# Altium integrated library Atmel Industry Compatible CPLD.IntLib: 265 symbols (part 7 of 12)
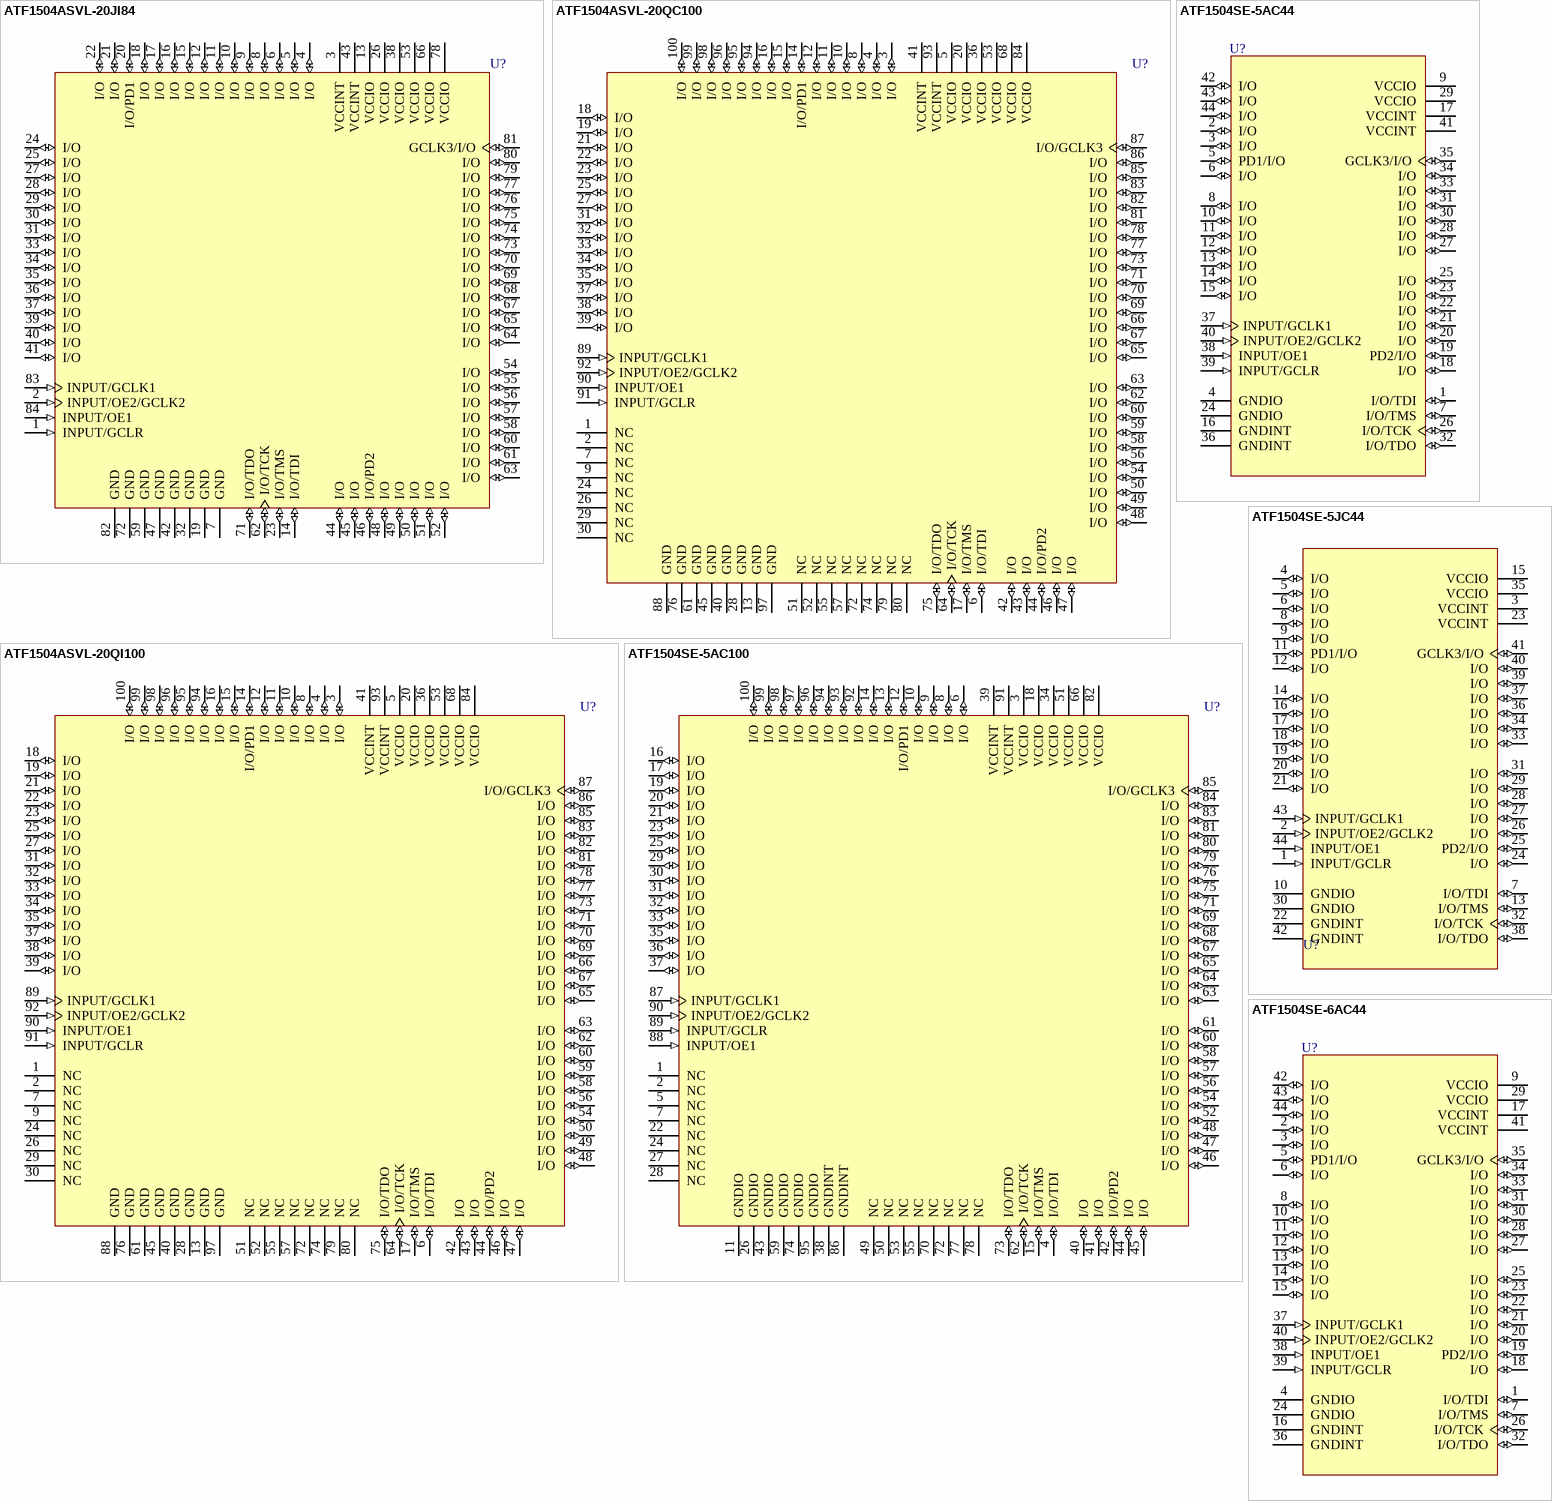
[diagram p52: symbols ATF1504ASVL-20JI84 to ATF1504SE-6AC44]

## ATF1504SE-5JC44
designator U?
ATF1504SE 5.0V CPLD, 64 Macrocells, 44-lead PLCC, Speed Grade 5.0, Commercial Grade; Published: 19-Mar-2004; LatestRevisionDate: 13-Apr-2006; LatestRevisionNote: IPC-7351 Footprint Added.; DatasheetVersion: Rev. 2401D-PLD-09/02; PackageVersion: rev.B, Oct-2001; PackageReference: 44J; Publisher: Altium Limited; PackageDescription: 44-Pin Leaded Chip Carrier 1.27 mm Pitch; Code_JEDEC: MS-018-AC; Code_IPC: PLCC-44; ComponentLink1Description: Manufacturer Link; ComponentLink1URL: http://www.atmel.com/products/pld/default.asp
footprint 44J_N (Leaded Chip Carrier, 44-Leads, Body 16.6x16.6mm, Pitch 1.27mm, IPC Medium Density)
footprint 44J_L (Leaded Chip Carrier, 44-Leads, Body 16.6x16.6mm, Pitch 1.27mm, IPC High Density)
footprint 44J_M (Leaded Chip Carrier, 44-Leads, Body 16.6x16.6mm, Pitch 1.27mm, IPC Low Density)
3D model ATF1504SE-44J (44-Pin Leaded Chip Carrier 1.27 mm Pitch)
pins: 1 INPUT/GCLR (in), 2 INPUT/OE2/GCLK2 (in), 3 VCCINT (power), 4 I/O (io), 5 I/O (io), 6 I/O (io), 7 I/O/TDI (io), 8 I/O (io), 9 I/O (io), 10 GNDIO (power), 11 PD1/I/O (io), 12 I/O (io), 13 I/O/TMS (io), 14 I/O (io), 15 VCCIO (power), 16 I/O (io), 17 I/O (io), 18 I/O (io), 19 I/O (io), 20 I/O (io), 21 I/O (io), 22 GNDINT (power), 23 VCCINT (power), 24 I/O (io), 25 PD2/I/O (io), 26 I/O (io), 27 I/O (io), 28 I/O (io), 29 I/O (io), 30 GNDIO (power), 31 I/O (io), 32 I/O/TCK (io), 33 I/O (io), 34 I/O (io), 35 VCCIO (power), 36 I/O (io), 37 I/O (io), 38 I/O/TDO (io), 39 I/O (io), 40 I/O (io), 41 GCLK3/I/O (io), 42 GNDINT (power), 43 INPUT/GCLK1 (in), 44 INPUT/OE1 (in)

## ATF1504SE-6AC44
designator U?
ATF1504SE 5.0V CPLD, 64 Macrocells, 44-lead TQFP, Speed Grade 6.0, Commercial Grade; Published: 19-Mar-2004; LatestRevisionDate: 13-Apr-2006; LatestRevisionNote: IPC-7351 Footprint Added.; DatasheetVersion: Rev. 2401D-PLD-09/02; PackageVersion: rev.B, Oct-2001; PackageReference: 44A; Publisher: Altium Limited; PackageDescription: 44-Pin Thin Quad Flat Pack 0.8 mm Pitch; ComponentLink1Description: Manufacturer Link; ComponentLink1URL: http://www.atmel.com/products/pld/default.asp
footprint 44A_N (Thin QFP, 44-Leads, Body 10x10mm, Pitch 0.8mm, IPC Medium Density)
footprint 44A_L (Thin QFP, 44-Leads, Body 10x10mm, Pitch 0.8mm, IPC High Density)
footprint 44A_M (Thin QFP, 44-Leads, Body 10x10mm, Pitch 0.8mm, IPC Low Density)
3D model ATF1504SE-44A (44-Pin Thin Quad Flat Pack 0.8 mm Pitch)
pins: 1 I/O/TDI (io), 2 I/O (io), 3 I/O (io), 4 GNDIO (power), 5 PD1/I/O (io), 6 I/O (io), 7 I/O/TMS (io), 8 I/O (io), 9 VCCIO (power), 10 I/O (io), 11 I/O (io), 12 I/O (io), 13 I/O (io), 14 I/O (io), 15 I/O (io), 16 GNDINT (power), 17 VCCINT (power), 18 I/O (io), 19 PD2/I/O (io), 20 I/O (io), 21 I/O (io), 22 I/O (io), 23 I/O (io), 24 GNDIO (power), 25 I/O (io), 26 I/O/TCK (io), 27 I/O (io), 28 I/O (io), 29 VCCIO (power), 30 I/O (io), 31 I/O (io), 32 I/O/TDO (io), 33 I/O (io), 34 I/O (io), 35 GCLK3/I/O (io), 36 GNDINT (power), 37 INPUT/GCLK1 (in), 38 INPUT/OE1 (in), 39 INPUT/GCLR (in), 40 INPUT/OE2/GCLK2 (in), 41 VCCINT (power), 42 I/O (io), 43 I/O (io), 44 I/O (io)

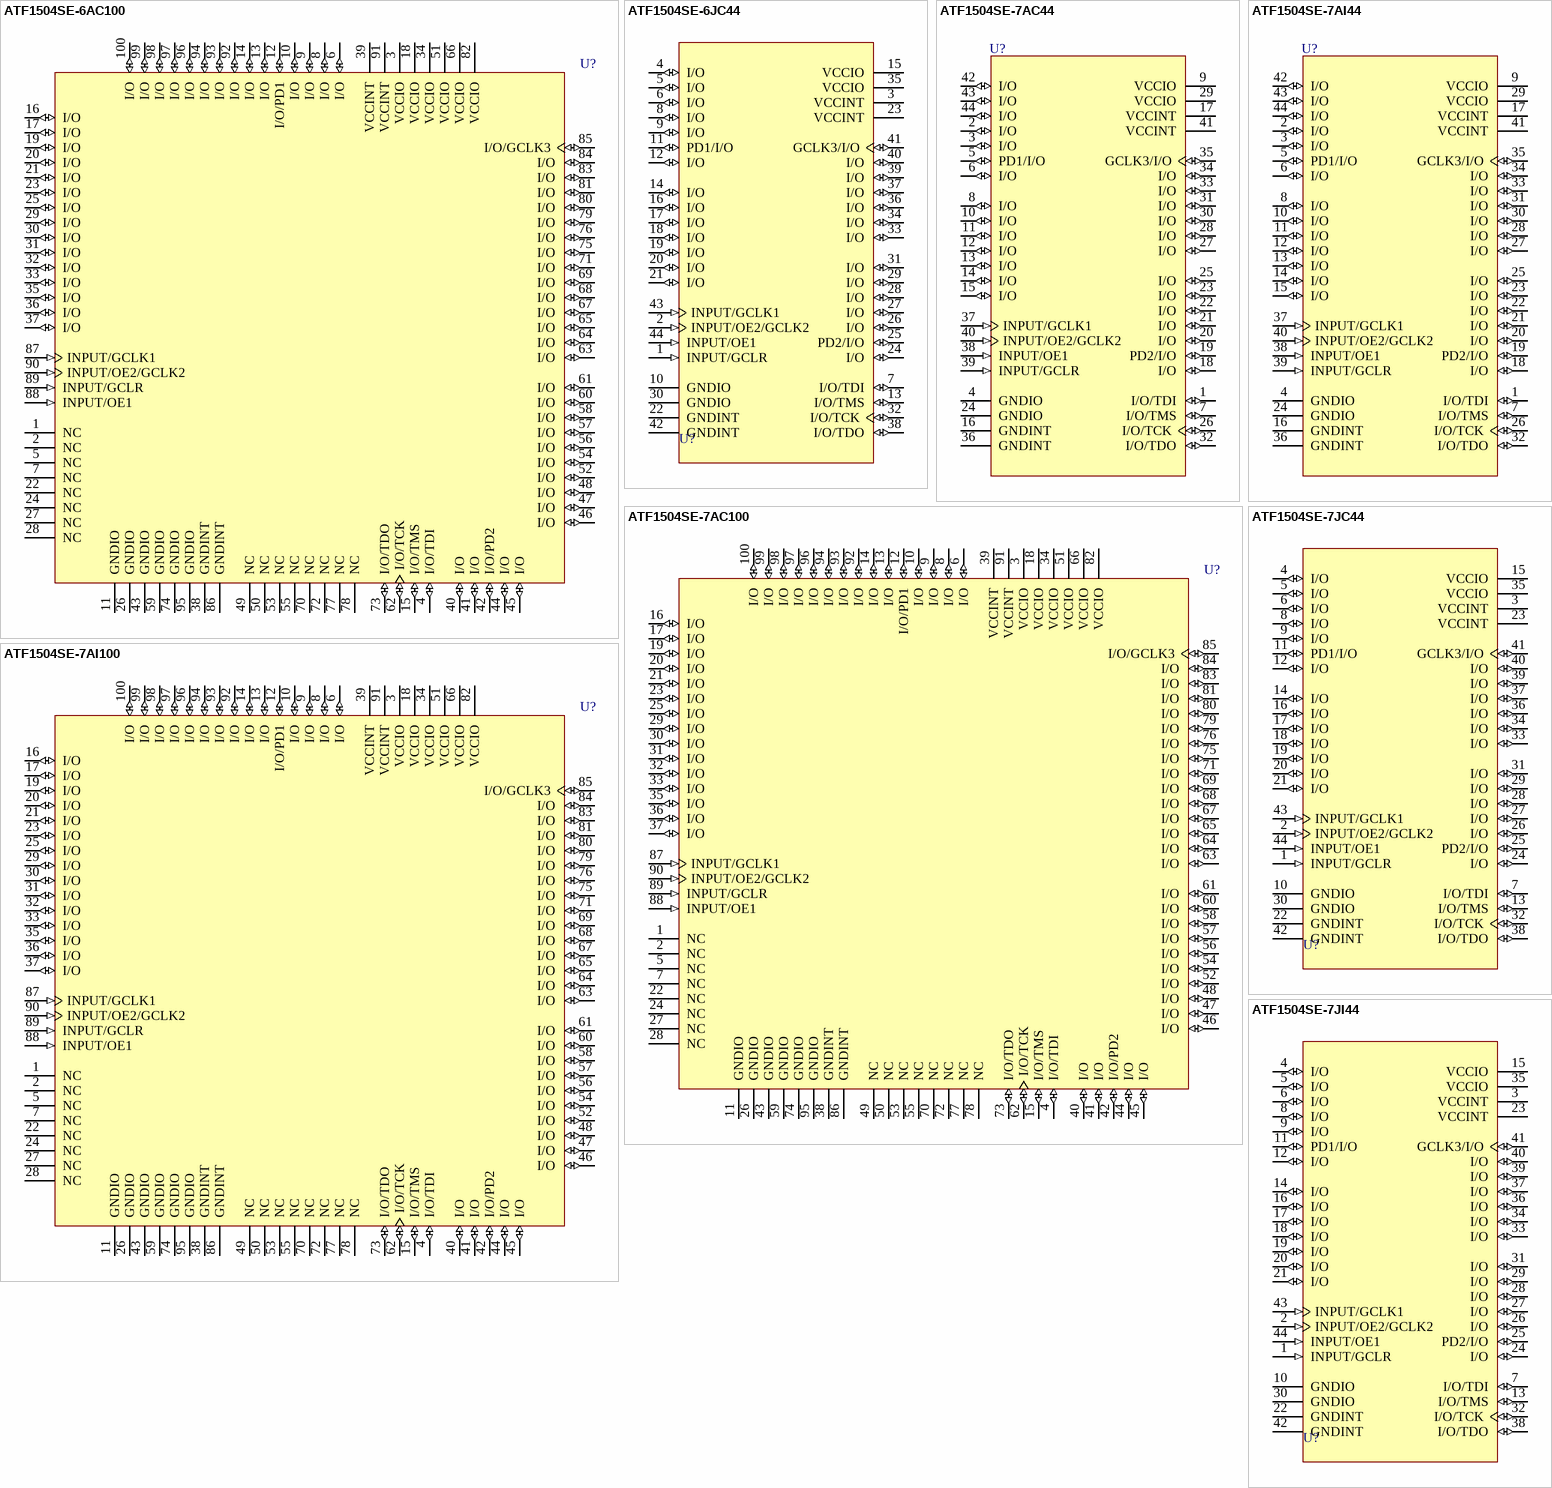
[diagram p19: symbols ATF1504SE-6AC100 to ATF1504SE-7JI44]

## ATF1504SE-6AC100
designator U?
ATF1504SE 5.0V CPLD, 64 Macrocells, 100-lead TQFP, Speed Grade 6.0, Commercial Grade; Published: 19-Mar-2004; LatestRevisionDate: 13-Apr-2006; LatestRevisionNote: IPC-7351 Footprint Added.; DatasheetVersion: Rev. 2401D-PLD-09/02; PackageVersion: rev.A, Nov-2001; PackageReference: 100T1; Publisher: Altium Limited; PackageDescription: 100-Pin Thin Quad Flat Pack 0.5 mm Pitch; Code_JEDEC: MS-026-AED; ComponentLink1Description: Manufacturer Link; ComponentLink1URL: http://www.atmel.com/products/pld/default.asp
footprint 100T1_N (Thin QFP, 100-Leads, Body 14x14mm, Pitch 0.5mm, IPC Medium Density)
footprint 100T1_L (Thin QFP, 100-Leads, Body 14x14mm, Pitch 0.5mm, IPC High Density)
footprint 100T1_M (Thin QFP, 100-Leads, Body 14x14mm, Pitch 0.5mm, IPC Low Density)
3D model ATF1504SE-100T1 (100-Pin Thin Quad Flat Pack 0.5 mm Pitch)
pins: 1 NC, 2 NC, 3 VCCIO (power), 4 I/O/TDI (io), 5 NC, 6 I/O (io), 7 NC, 8 I/O (io), 9 I/O (io), 10 I/O (io), 11 GNDIO (power), 12 I/O/PD1 (io), 13 I/O (io), 14 I/O (io), 15 I/O/TMS (io), 16 I/O (io), 17 I/O (io), 18 VCCIO (power), 19 I/O (io), 20 I/O (io), 21 I/O (io), 22 NC, 23 I/O (io), 24 NC, 25 I/O (io), 26 GNDIO (power), 27 NC, 28 NC, 29 I/O (io), 30 I/O (io), 31 I/O (io), 32 I/O (io), 33 I/O (io), 34 VCCIO (power), 35 I/O (io), 36 I/O (io), 37 I/O (io), 38 GNDINT (power), 39 VCCINT (power), 40 I/O (io), 41 I/O (io), 42 I/O/PD2 (io), 43 GNDIO (power), 44 I/O (io), 45 I/O (io), 46 I/O (io), 47 I/O (io), 48 I/O (io), 49 NC, 50 NC, 51 VCCIO (power), 52 I/O (io), 53 NC, 54 I/O (io), 55 NC, 56 I/O (io), 57 I/O (io), 58 I/O (io), 59 GNDIO (power), 60 I/O (io), 61 I/O (io), 62 I/O/TCK (io), 63 I/O (io), 64 I/O (io), 65 I/O (io), 66 VCCIO (power), 67 I/O (io), 68 I/O (io), 69 I/O (io), 70 NC, 71 I/O (io), 72 NC, 73 I/O/TDO (io), 74 GNDIO (power), 75 I/O (io), 76 I/O (io), 77 NC, 78 NC, 79 I/O (io), 80 I/O (io), 81 I/O (io), 82 VCCIO (power), 83 I/O (io), 84 I/O (io), 85 I/O/GCLK3 (io), 86 GNDINT (power), 87 INPUT/GCLK1 (in), 88 INPUT/OE1 (in), 89 INPUT/GCLR (in), 90 INPUT/OE2/GCLK2 (in), 91 VCCINT (power), 92 I/O (io), 93 I/O (io), 94 I/O (io), 95 GNDIO (power), 96 I/O (io), 97 I/O (io), 98 I/O (io), 99 I/O (io), 100 I/O (io)

## ATF1504SE-6JC44
designator U?
ATF1504SE 5.0V CPLD, 64 Macrocells, 44-lead PLCC, Speed Grade 6.0, Commercial Grade; Published: 19-Mar-2004; LatestRevisionDate: 13-Apr-2006; LatestRevisionNote: IPC-7351 Footprint Added.; DatasheetVersion: Rev. 2401D-PLD-09/02; PackageVersion: rev.B, Oct-2001; PackageReference: 44J; Publisher: Altium Limited; PackageDescription: 44-Pin Leaded Chip Carrier 1.27 mm Pitch; Code_JEDEC: MS-018-AC; Code_IPC: PLCC-44; ComponentLink1Description: Manufacturer Link; ComponentLink1URL: http://www.atmel.com/products/pld/default.asp
footprint 44J_N (Leaded Chip Carrier, 44-Leads, Body 16.6x16.6mm, Pitch 1.27mm, IPC Medium Density)
footprint 44J_L (Leaded Chip Carrier, 44-Leads, Body 16.6x16.6mm, Pitch 1.27mm, IPC High Density)
footprint 44J_M (Leaded Chip Carrier, 44-Leads, Body 16.6x16.6mm, Pitch 1.27mm, IPC Low Density)
3D model ATF1504SE-44J (44-Pin Leaded Chip Carrier 1.27 mm Pitch)
pins: 1 INPUT/GCLR (in), 2 INPUT/OE2/GCLK2 (in), 3 VCCINT (power), 4 I/O (io), 5 I/O (io), 6 I/O (io), 7 I/O/TDI (io), 8 I/O (io), 9 I/O (io), 10 GNDIO (power), 11 PD1/I/O (io), 12 I/O (io), 13 I/O/TMS (io), 14 I/O (io), 15 VCCIO (power), 16 I/O (io), 17 I/O (io), 18 I/O (io), 19 I/O (io), 20 I/O (io), 21 I/O (io), 22 GNDINT (power), 23 VCCINT (power), 24 I/O (io), 25 PD2/I/O (io), 26 I/O (io), 27 I/O (io), 28 I/O (io), 29 I/O (io), 30 GNDIO (power), 31 I/O (io), 32 I/O/TCK (io), 33 I/O (io), 34 I/O (io), 35 VCCIO (power), 36 I/O (io), 37 I/O (io), 38 I/O/TDO (io), 39 I/O (io), 40 I/O (io), 41 GCLK3/I/O (io), 42 GNDINT (power), 43 INPUT/GCLK1 (in), 44 INPUT/OE1 (in)

## ATF1504SE-7AC44
designator U?
ATF1504SE 5.0V CPLD, 64 Macrocells, 44-lead TQFP, Speed Grade 7.5, Commercial Grade; Published: 19-Mar-2004; LatestRevisionDate: 13-Apr-2006; LatestRevisionNote: IPC-7351 Footprint Added.; DatasheetVersion: Rev. 2401D-PLD-09/02; PackageVersion: rev.B, Oct-2001; PackageReference: 44A; Publisher: Altium Limited; PackageDescription: 44-Pin Thin Quad Flat Pack 0.8 mm Pitch; ComponentLink1Description: Manufacturer Link; ComponentLink1URL: http://www.atmel.com/products/pld/default.asp
footprint 44A_N (Thin QFP, 44-Leads, Body 10x10mm, Pitch 0.8mm, IPC Medium Density)
footprint 44A_L (Thin QFP, 44-Leads, Body 10x10mm, Pitch 0.8mm, IPC High Density)
footprint 44A_M (Thin QFP, 44-Leads, Body 10x10mm, Pitch 0.8mm, IPC Low Density)
3D model ATF1504SE-44A (44-Pin Thin Quad Flat Pack 0.8 mm Pitch)
pins: 1 I/O/TDI (io), 2 I/O (io), 3 I/O (io), 4 GNDIO (power), 5 PD1/I/O (io), 6 I/O (io), 7 I/O/TMS (io), 8 I/O (io), 9 VCCIO (power), 10 I/O (io), 11 I/O (io), 12 I/O (io), 13 I/O (io), 14 I/O (io), 15 I/O (io), 16 GNDINT (power), 17 VCCINT (power), 18 I/O (io), 19 PD2/I/O (io), 20 I/O (io), 21 I/O (io), 22 I/O (io), 23 I/O (io), 24 GNDIO (power), 25 I/O (io), 26 I/O/TCK (io), 27 I/O (io), 28 I/O (io), 29 VCCIO (power), 30 I/O (io), 31 I/O (io), 32 I/O/TDO (io), 33 I/O (io), 34 I/O (io), 35 GCLK3/I/O (io), 36 GNDINT (power), 37 INPUT/GCLK1 (in), 38 INPUT/OE1 (in), 39 INPUT/GCLR (in), 40 INPUT/OE2/GCLK2 (in), 41 VCCINT (power), 42 I/O (io), 43 I/O (io), 44 I/O (io)

## ATF1504SE-7AC100
designator U?
ATF1504SE 5.0V CPLD, 64 Macrocells, 100-lead TQFP, Speed Grade 7.5, Commercial Grade; Published: 19-Mar-2004; LatestRevisionDate: 13-Apr-2006; LatestRevisionNote: IPC-7351 Footprint Added.; DatasheetVersion: Rev. 2401D-PLD-09/02; PackageVersion: rev.A, Nov-2001; PackageReference: 100T1; Publisher: Altium Limited; PackageDescription: 100-Pin Thin Quad Flat Pack 0.5 mm Pitch; Code_JEDEC: MS-026-AED; ComponentLink1Description: Manufacturer Link; ComponentLink1URL: http://www.atmel.com/products/pld/default.asp
footprint 100T1_N (Thin QFP, 100-Leads, Body 14x14mm, Pitch 0.5mm, IPC Medium Density)
footprint 100T1_L (Thin QFP, 100-Leads, Body 14x14mm, Pitch 0.5mm, IPC High Density)
footprint 100T1_M (Thin QFP, 100-Leads, Body 14x14mm, Pitch 0.5mm, IPC Low Density)
3D model ATF1504SE-100T1 (100-Pin Thin Quad Flat Pack 0.5 mm Pitch)
pins: 1 NC, 2 NC, 3 VCCIO (power), 4 I/O/TDI (io), 5 NC, 6 I/O (io), 7 NC, 8 I/O (io), 9 I/O (io), 10 I/O (io), 11 GNDIO (power), 12 I/O/PD1 (io), 13 I/O (io), 14 I/O (io), 15 I/O/TMS (io), 16 I/O (io), 17 I/O (io), 18 VCCIO (power), 19 I/O (io), 20 I/O (io), 21 I/O (io), 22 NC, 23 I/O (io), 24 NC, 25 I/O (io), 26 GNDIO (power), 27 NC, 28 NC, 29 I/O (io), 30 I/O (io), 31 I/O (io), 32 I/O (io), 33 I/O (io), 34 VCCIO (power), 35 I/O (io), 36 I/O (io), 37 I/O (io), 38 GNDINT (power), 39 VCCINT (power), 40 I/O (io), 41 I/O (io), 42 I/O/PD2 (io), 43 GNDIO (power), 44 I/O (io), 45 I/O (io), 46 I/O (io), 47 I/O (io), 48 I/O (io), 49 NC, 50 NC, 51 VCCIO (power), 52 I/O (io), 53 NC, 54 I/O (io), 55 NC, 56 I/O (io), 57 I/O (io), 58 I/O (io), 59 GNDIO (power), 60 I/O (io), 61 I/O (io), 62 I/O/TCK (io), 63 I/O (io), 64 I/O (io), 65 I/O (io), 66 VCCIO (power), 67 I/O (io), 68 I/O (io), 69 I/O (io), 70 NC, 71 I/O (io), 72 NC, 73 I/O/TDO (io), 74 GNDIO (power), 75 I/O (io), 76 I/O (io), 77 NC, 78 NC, 79 I/O (io), 80 I/O (io), 81 I/O (io), 82 VCCIO (power), 83 I/O (io), 84 I/O (io), 85 I/O/GCLK3 (io), 86 GNDINT (power), 87 INPUT/GCLK1 (in), 88 INPUT/OE1 (in), 89 INPUT/GCLR (in), 90 INPUT/OE2/GCLK2 (in), 91 VCCINT (power), 92 I/O (io), 93 I/O (io), 94 I/O (io), 95 GNDIO (power), 96 I/O (io), 97 I/O (io), 98 I/O (io), 99 I/O (io), 100 I/O (io)

## ATF1504SE-7AI44
designator U?
ATF1504SE 5.0V CPLD, 64 Macrocells, 44-lead TQFP, Speed Grade 7.5, Industrial Grade; Published: 19-Mar-2004; LatestRevisionDate: 13-Apr-2006; LatestRevisionNote: IPC-7351 Footprint Added.; DatasheetVersion: Rev. 2401D-PLD-09/02; PackageVersion: rev.B, Oct-2001; PackageReference: 44A; Publisher: Altium Limited; PackageDescription: 44-Pin Thin Quad Flat Pack 0.8 mm Pitch; ComponentLink1Description: Manufacturer Link; ComponentLink1URL: http://www.atmel.com/products/pld/default.asp
footprint 44A_N (Thin QFP, 44-Leads, Body 10x10mm, Pitch 0.8mm, IPC Medium Density)
footprint 44A_L (Thin QFP, 44-Leads, Body 10x10mm, Pitch 0.8mm, IPC High Density)
footprint 44A_M (Thin QFP, 44-Leads, Body 10x10mm, Pitch 0.8mm, IPC Low Density)
3D model ATF1504SE-44A (44-Pin Thin Quad Flat Pack 0.8 mm Pitch)
pins: 1 I/O/TDI (io), 2 I/O (io), 3 I/O (io), 4 GNDIO (power), 5 PD1/I/O (io), 6 I/O (io), 7 I/O/TMS (io), 8 I/O (io), 9 VCCIO (power), 10 I/O (io), 11 I/O (io), 12 I/O (io), 13 I/O (io), 14 I/O (io), 15 I/O (io), 16 GNDINT (power), 17 VCCINT (power), 18 I/O (io), 19 PD2/I/O (io), 20 I/O (io), 21 I/O (io), 22 I/O (io), 23 I/O (io), 24 GNDIO (power), 25 I/O (io), 26 I/O/TCK (io), 27 I/O (io), 28 I/O (io), 29 VCCIO (power), 30 I/O (io), 31 I/O (io), 32 I/O/TDO (io), 33 I/O (io), 34 I/O (io), 35 GCLK3/I/O (io), 36 GNDINT (power), 37 INPUT/GCLK1 (in), 38 INPUT/OE1 (in), 39 INPUT/GCLR (in), 40 INPUT/OE2/GCLK2 (in), 41 VCCINT (power), 42 I/O (io), 43 I/O (io), 44 I/O (io)

## ATF1504SE-7AI100
designator U?
ATF1504SE 5.0V CPLD, 64 Macrocells, 100-lead TQFP, Speed Grade 7.5, Industrial Grade; Published: 19-Mar-2004; LatestRevisionDate: 13-Apr-2006; LatestRevisionNote: IPC-7351 Footprint Added.; DatasheetVersion: Rev. 2401D-PLD-09/02; PackageVersion: rev.A, Nov-2001; PackageReference: 100T1; Publisher: Altium Limited; PackageDescription: 100-Pin Thin Quad Flat Pack 0.5 mm Pitch; Code_JEDEC: MS-026-AED; ComponentLink1Description: Manufacturer Link; ComponentLink1URL: http://www.atmel.com/products/pld/default.asp
footprint 100T1_N (Thin QFP, 100-Leads, Body 14x14mm, Pitch 0.5mm, IPC Medium Density)
footprint 100T1_L (Thin QFP, 100-Leads, Body 14x14mm, Pitch 0.5mm, IPC High Density)
footprint 100T1_M (Thin QFP, 100-Leads, Body 14x14mm, Pitch 0.5mm, IPC Low Density)
3D model ATF1504SE-100T1 (100-Pin Thin Quad Flat Pack 0.5 mm Pitch)
pins: 1 NC, 2 NC, 3 VCCIO (power), 4 I/O/TDI (io), 5 NC, 6 I/O (io), 7 NC, 8 I/O (io), 9 I/O (io), 10 I/O (io), 11 GNDIO (power), 12 I/O/PD1 (io), 13 I/O (io), 14 I/O (io), 15 I/O/TMS (io), 16 I/O (io), 17 I/O (io), 18 VCCIO (power), 19 I/O (io), 20 I/O (io), 21 I/O (io), 22 NC, 23 I/O (io), 24 NC, 25 I/O (io), 26 GNDIO (power), 27 NC, 28 NC, 29 I/O (io), 30 I/O (io), 31 I/O (io), 32 I/O (io), 33 I/O (io), 34 VCCIO (power), 35 I/O (io), 36 I/O (io), 37 I/O (io), 38 GNDINT (power), 39 VCCINT (power), 40 I/O (io), 41 I/O (io), 42 I/O/PD2 (io), 43 GNDIO (power), 44 I/O (io), 45 I/O (io), 46 I/O (io), 47 I/O (io), 48 I/O (io), 49 NC, 50 NC, 51 VCCIO (power), 52 I/O (io), 53 NC, 54 I/O (io), 55 NC, 56 I/O (io), 57 I/O (io), 58 I/O (io), 59 GNDIO (power), 60 I/O (io), 61 I/O (io), 62 I/O/TCK (io), 63 I/O (io), 64 I/O (io), 65 I/O (io), 66 VCCIO (power), 67 I/O (io), 68 I/O (io), 69 I/O (io), 70 NC, 71 I/O (io), 72 NC, 73 I/O/TDO (io), 74 GNDIO (power), 75 I/O (io), 76 I/O (io), 77 NC, 78 NC, 79 I/O (io), 80 I/O (io), 81 I/O (io), 82 VCCIO (power), 83 I/O (io), 84 I/O (io), 85 I/O/GCLK3 (io), 86 GNDINT (power), 87 INPUT/GCLK1 (in), 88 INPUT/OE1 (in), 89 INPUT/GCLR (in), 90 INPUT/OE2/GCLK2 (in), 91 VCCINT (power), 92 I/O (io), 93 I/O (io), 94 I/O (io), 95 GNDIO (power), 96 I/O (io), 97 I/O (io), 98 I/O (io), 99 I/O (io), 100 I/O (io)

## ATF1504SE-7JC44
designator U?
ATF1504SE 5.0V CPLD, 64 Macrocells, 44-lead PLCC, Speed Grade 7.5, Commercial Grade; Published: 19-Mar-2004; LatestRevisionDate: 13-Apr-2006; LatestRevisionNote: IPC-7351 Footprint Added.; DatasheetVersion: Rev. 2401D-PLD-09/02; PackageVersion: rev.B, Oct-2001; PackageReference: 44J; Publisher: Altium Limited; PackageDescription: 44-Pin Leaded Chip Carrier 1.27 mm Pitch; Code_JEDEC: MS-018-AC; Code_IPC: PLCC-44; ComponentLink1Description: Manufacturer Link; ComponentLink1URL: http://www.atmel.com/products/pld/default.asp
footprint 44J_N (Leaded Chip Carrier, 44-Leads, Body 16.6x16.6mm, Pitch 1.27mm, IPC Medium Density)
footprint 44J_L (Leaded Chip Carrier, 44-Leads, Body 16.6x16.6mm, Pitch 1.27mm, IPC High Density)
footprint 44J_M (Leaded Chip Carrier, 44-Leads, Body 16.6x16.6mm, Pitch 1.27mm, IPC Low Density)
3D model ATF1504SE-44J (44-Pin Leaded Chip Carrier 1.27 mm Pitch)
pins: 1 INPUT/GCLR (in), 2 INPUT/OE2/GCLK2 (in), 3 VCCINT (power), 4 I/O (io), 5 I/O (io), 6 I/O (io), 7 I/O/TDI (io), 8 I/O (io), 9 I/O (io), 10 GNDIO (power), 11 PD1/I/O (io), 12 I/O (io), 13 I/O/TMS (io), 14 I/O (io), 15 VCCIO (power), 16 I/O (io), 17 I/O (io), 18 I/O (io), 19 I/O (io), 20 I/O (io), 21 I/O (io), 22 GNDINT (power), 23 VCCINT (power), 24 I/O (io), 25 PD2/I/O (io), 26 I/O (io), 27 I/O (io), 28 I/O (io), 29 I/O (io), 30 GNDIO (power), 31 I/O (io), 32 I/O/TCK (io), 33 I/O (io), 34 I/O (io), 35 VCCIO (power), 36 I/O (io), 37 I/O (io), 38 I/O/TDO (io), 39 I/O (io), 40 I/O (io), 41 GCLK3/I/O (io), 42 GNDINT (power), 43 INPUT/GCLK1 (in), 44 INPUT/OE1 (in)

## ATF1504SE-7JI44
designator U?
ATF1504SE 5.0V CPLD, 64 Macrocells, 44-lead PLCC, Speed Grade 7.5, Industrial Grade; Published: 19-Mar-2004; LatestRevisionDate: 13-Apr-2006; LatestRevisionNote: IPC-7351 Footprint Added.; DatasheetVersion: Rev. 2401D-PLD-09/02; PackageVersion: rev.B, Oct-2001; PackageReference: 44J; Publisher: Altium Limited; PackageDescription: 44-Pin Leaded Chip Carrier 1.27 mm Pitch; Code_JEDEC: MS-018-AC; Code_IPC: PLCC-44; ComponentLink1Description: Manufacturer Link; ComponentLink1URL: http://www.atmel.com/products/pld/default.asp
footprint 44J_N (Leaded Chip Carrier, 44-Leads, Body 16.6x16.6mm, Pitch 1.27mm, IPC Medium Density)
footprint 44J_L (Leaded Chip Carrier, 44-Leads, Body 16.6x16.6mm, Pitch 1.27mm, IPC High Density)
footprint 44J_M (Leaded Chip Carrier, 44-Leads, Body 16.6x16.6mm, Pitch 1.27mm, IPC Low Density)
3D model ATF1504SE-44J (44-Pin Leaded Chip Carrier 1.27 mm Pitch)
pins: 1 INPUT/GCLR (in), 2 INPUT/OE2/GCLK2 (in), 3 VCCINT (power), 4 I/O (io), 5 I/O (io), 6 I/O (io), 7 I/O/TDI (io), 8 I/O (io), 9 I/O (io), 10 GNDIO (power), 11 PD1/I/O (io), 12 I/O (io), 13 I/O/TMS (io), 14 I/O (io), 15 VCCIO (power), 16 I/O (io), 17 I/O (io), 18 I/O (io), 19 I/O (io), 20 I/O (io), 21 I/O (io), 22 GNDINT (power), 23 VCCINT (power), 24 I/O (io), 25 PD2/I/O (io), 26 I/O (io), 27 I/O (io), 28 I/O (io), 29 I/O (io), 30 GNDIO (power), 31 I/O (io), 32 I/O/TCK (io), 33 I/O (io), 34 I/O (io), 35 VCCIO (power), 36 I/O (io), 37 I/O (io), 38 I/O/TDO (io), 39 I/O (io), 40 I/O (io), 41 GCLK3/I/O (io), 42 GNDINT (power), 43 INPUT/GCLK1 (in), 44 INPUT/OE1 (in)

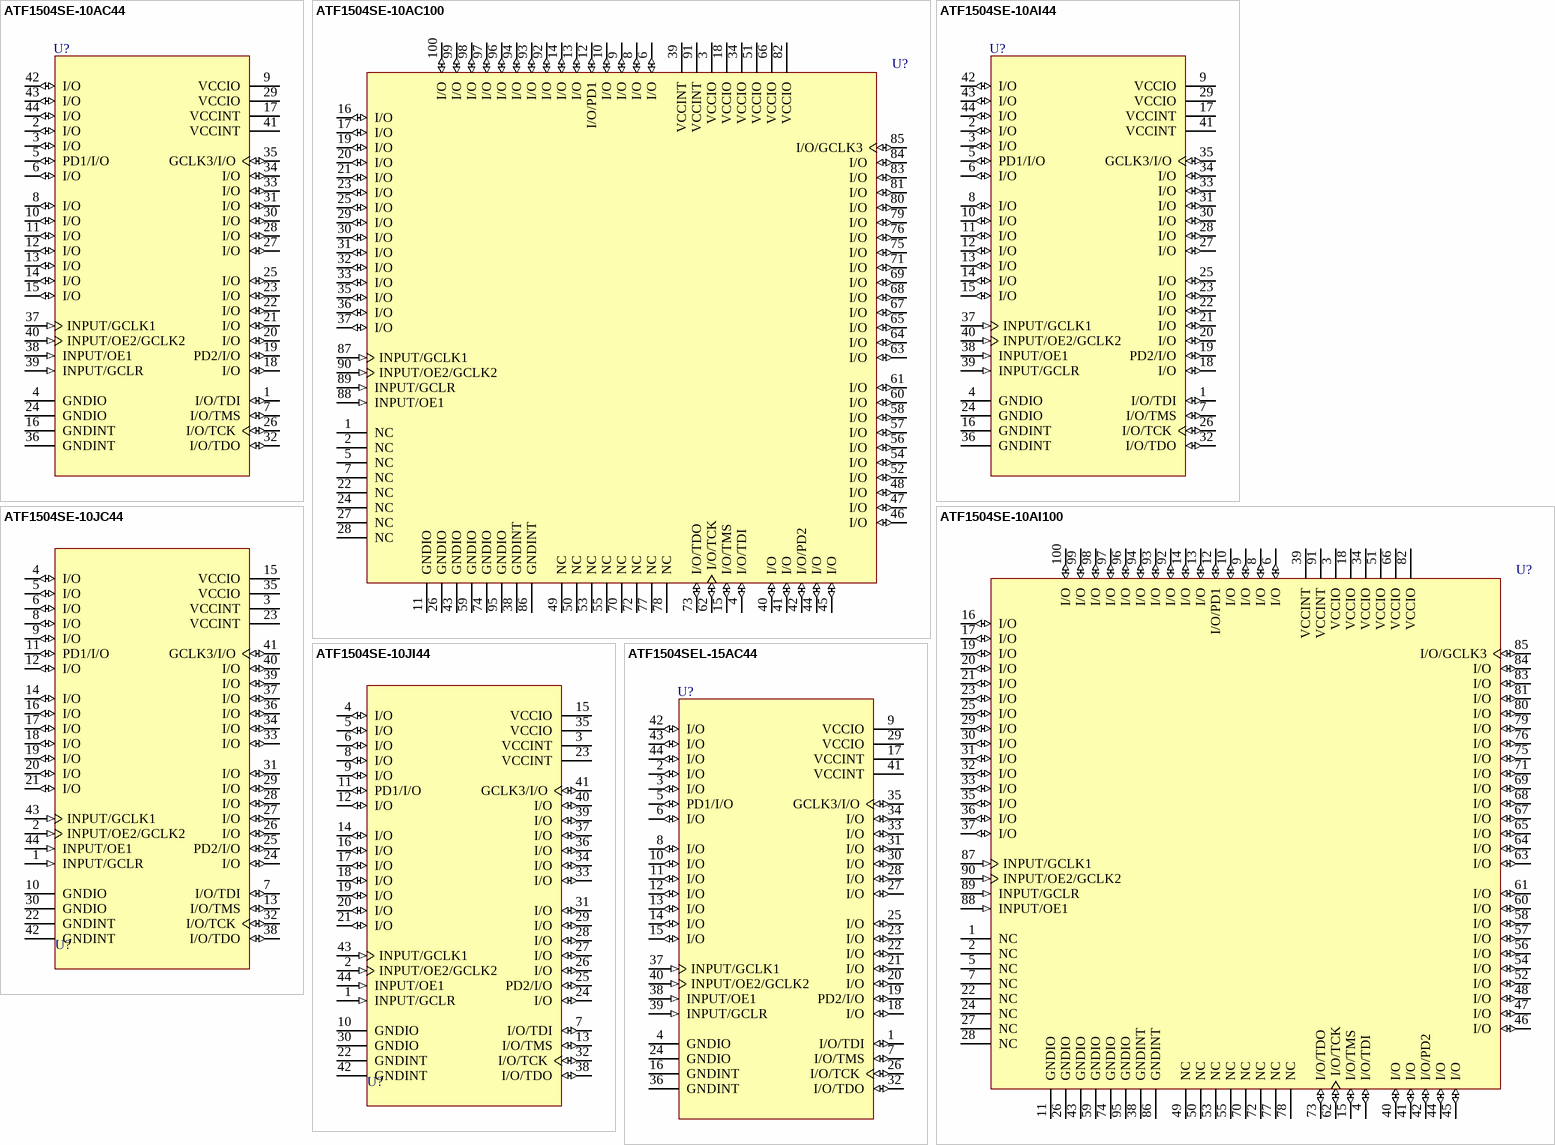
[diagram p20: symbols ATF1504SE-10AC44 to ATF1504SEL-15AC44]

## ATF1504SE-10AC44
designator U?
ATF1504SE 5.0V CPLD, 64 Macrocells, 44-lead TQFP, Speed Grade 10, Commercial Grade; Published: 19-Mar-2004; LatestRevisionDate: 13-Apr-2006; LatestRevisionNote: IPC-7351 Footprint Added.; DatasheetVersion: Rev. 2401D-PLD-09/02; PackageVersion: rev.B, Oct-2001; PackageReference: 44A; Publisher: Altium Limited; PackageDescription: 44-Pin Thin Quad Flat Pack 0.8 mm Pitch; ComponentLink1Description: Manufacturer Link; ComponentLink1URL: http://www.atmel.com/products/pld/default.asp
footprint 44A_N (Thin QFP, 44-Leads, Body 10x10mm, Pitch 0.8mm, IPC Medium Density)
footprint 44A_L (Thin QFP, 44-Leads, Body 10x10mm, Pitch 0.8mm, IPC High Density)
footprint 44A_M (Thin QFP, 44-Leads, Body 10x10mm, Pitch 0.8mm, IPC Low Density)
3D model ATF1504SE-44A (44-Pin Thin Quad Flat Pack 0.8 mm Pitch)
pins: 1 I/O/TDI (io), 2 I/O (io), 3 I/O (io), 4 GNDIO (power), 5 PD1/I/O (io), 6 I/O (io), 7 I/O/TMS (io), 8 I/O (io), 9 VCCIO (power), 10 I/O (io), 11 I/O (io), 12 I/O (io), 13 I/O (io), 14 I/O (io), 15 I/O (io), 16 GNDINT (power), 17 VCCINT (power), 18 I/O (io), 19 PD2/I/O (io), 20 I/O (io), 21 I/O (io), 22 I/O (io), 23 I/O (io), 24 GNDIO (power), 25 I/O (io), 26 I/O/TCK (io), 27 I/O (io), 28 I/O (io), 29 VCCIO (power), 30 I/O (io), 31 I/O (io), 32 I/O/TDO (io), 33 I/O (io), 34 I/O (io), 35 GCLK3/I/O (io), 36 GNDINT (power), 37 INPUT/GCLK1 (in), 38 INPUT/OE1 (in), 39 INPUT/GCLR (in), 40 INPUT/OE2/GCLK2 (in), 41 VCCINT (power), 42 I/O (io), 43 I/O (io), 44 I/O (io)

## ATF1504SE-10AC100
designator U?
ATF1504SE 5.0V CPLD, 64 Macrocells, 100-lead TQFP, Speed Grade 10, Commercial Grade; Published: 19-Mar-2004; LatestRevisionDate: 13-Apr-2006; LatestRevisionNote: IPC-7351 Footprint Added.; DatasheetVersion: Rev. 2401D-PLD-09/02; PackageVersion: rev.A, Nov-2001; PackageReference: 100T1; Publisher: Altium Limited; PackageDescription: 100-Pin Thin Quad Flat Pack 0.5 mm Pitch; Code_JEDEC: MS-026-AED; ComponentLink1Description: Manufacturer Link; ComponentLink1URL: http://www.atmel.com/products/pld/default.asp
footprint 100T1_N (Thin QFP, 100-Leads, Body 14x14mm, Pitch 0.5mm, IPC Medium Density)
footprint 100T1_L (Thin QFP, 100-Leads, Body 14x14mm, Pitch 0.5mm, IPC High Density)
footprint 100T1_M (Thin QFP, 100-Leads, Body 14x14mm, Pitch 0.5mm, IPC Low Density)
3D model ATF1504SE-100T1 (100-Pin Thin Quad Flat Pack 0.5 mm Pitch)
pins: 1 NC, 2 NC, 3 VCCIO (power), 4 I/O/TDI (io), 5 NC, 6 I/O (io), 7 NC, 8 I/O (io), 9 I/O (io), 10 I/O (io), 11 GNDIO (power), 12 I/O/PD1 (io), 13 I/O (io), 14 I/O (io), 15 I/O/TMS (io), 16 I/O (io), 17 I/O (io), 18 VCCIO (power), 19 I/O (io), 20 I/O (io), 21 I/O (io), 22 NC, 23 I/O (io), 24 NC, 25 I/O (io), 26 GNDIO (power), 27 NC, 28 NC, 29 I/O (io), 30 I/O (io), 31 I/O (io), 32 I/O (io), 33 I/O (io), 34 VCCIO (power), 35 I/O (io), 36 I/O (io), 37 I/O (io), 38 GNDINT (power), 39 VCCINT (power), 40 I/O (io), 41 I/O (io), 42 I/O/PD2 (io), 43 GNDIO (power), 44 I/O (io), 45 I/O (io), 46 I/O (io), 47 I/O (io), 48 I/O (io), 49 NC, 50 NC, 51 VCCIO (power), 52 I/O (io), 53 NC, 54 I/O (io), 55 NC, 56 I/O (io), 57 I/O (io), 58 I/O (io), 59 GNDIO (power), 60 I/O (io), 61 I/O (io), 62 I/O/TCK (io), 63 I/O (io), 64 I/O (io), 65 I/O (io), 66 VCCIO (power), 67 I/O (io), 68 I/O (io), 69 I/O (io), 70 NC, 71 I/O (io), 72 NC, 73 I/O/TDO (io), 74 GNDIO (power), 75 I/O (io), 76 I/O (io), 77 NC, 78 NC, 79 I/O (io), 80 I/O (io), 81 I/O (io), 82 VCCIO (power), 83 I/O (io), 84 I/O (io), 85 I/O/GCLK3 (io), 86 GNDINT (power), 87 INPUT/GCLK1 (in), 88 INPUT/OE1 (in), 89 INPUT/GCLR (in), 90 INPUT/OE2/GCLK2 (in), 91 VCCINT (power), 92 I/O (io), 93 I/O (io), 94 I/O (io), 95 GNDIO (power), 96 I/O (io), 97 I/O (io), 98 I/O (io), 99 I/O (io), 100 I/O (io)

## ATF1504SE-10AI44
designator U?
ATF1504SE 5.0V CPLD, 64 Macrocells, 44-lead TQFP, Speed Grade 10, Industrial Grade; Published: 19-Mar-2004; LatestRevisionDate: 13-Apr-2006; LatestRevisionNote: IPC-7351 Footprint Added.; DatasheetVersion: Rev. 2401D-PLD-09/02; PackageVersion: rev.B, Oct-2001; PackageReference: 44A; Publisher: Altium Limited; PackageDescription: 44-Pin Thin Quad Flat Pack 0.8 mm Pitch; ComponentLink1Description: Manufacturer Link; ComponentLink1URL: http://www.atmel.com/products/pld/default.asp
footprint 44A_N (Thin QFP, 44-Leads, Body 10x10mm, Pitch 0.8mm, IPC Medium Density)
footprint 44A_L (Thin QFP, 44-Leads, Body 10x10mm, Pitch 0.8mm, IPC High Density)
footprint 44A_M (Thin QFP, 44-Leads, Body 10x10mm, Pitch 0.8mm, IPC Low Density)
3D model ATF1504SE-44A (44-Pin Thin Quad Flat Pack 0.8 mm Pitch)
pins: 1 I/O/TDI (io), 2 I/O (io), 3 I/O (io), 4 GNDIO (power), 5 PD1/I/O (io), 6 I/O (io), 7 I/O/TMS (io), 8 I/O (io), 9 VCCIO (power), 10 I/O (io), 11 I/O (io), 12 I/O (io), 13 I/O (io), 14 I/O (io), 15 I/O (io), 16 GNDINT (power), 17 VCCINT (power), 18 I/O (io), 19 PD2/I/O (io), 20 I/O (io), 21 I/O (io), 22 I/O (io), 23 I/O (io), 24 GNDIO (power), 25 I/O (io), 26 I/O/TCK (io), 27 I/O (io), 28 I/O (io), 29 VCCIO (power), 30 I/O (io), 31 I/O (io), 32 I/O/TDO (io), 33 I/O (io), 34 I/O (io), 35 GCLK3/I/O (io), 36 GNDINT (power), 37 INPUT/GCLK1 (in), 38 INPUT/OE1 (in), 39 INPUT/GCLR (in), 40 INPUT/OE2/GCLK2 (in), 41 VCCINT (power), 42 I/O (io), 43 I/O (io), 44 I/O (io)

## ATF1504SE-10AI100
designator U?
ATF1504SE 5.0V CPLD, 64 Macrocells, 100-lead TQFP, Speed Grade 10, Industrial Grade; Published: 19-Mar-2004; LatestRevisionDate: 13-Apr-2006; LatestRevisionNote: IPC-7351 Footprint Added.; DatasheetVersion: Rev. 2401D-PLD-09/02; PackageVersion: rev.A, Nov-2001; PackageReference: 100T1; Publisher: Altium Limited; PackageDescription: 100-Pin Thin Quad Flat Pack 0.5 mm Pitch; Code_JEDEC: MS-026-AED; ComponentLink1Description: Manufacturer Link; ComponentLink1URL: http://www.atmel.com/products/pld/default.asp
footprint 100T1_N (Thin QFP, 100-Leads, Body 14x14mm, Pitch 0.5mm, IPC Medium Density)
footprint 100T1_L (Thin QFP, 100-Leads, Body 14x14mm, Pitch 0.5mm, IPC High Density)
footprint 100T1_M (Thin QFP, 100-Leads, Body 14x14mm, Pitch 0.5mm, IPC Low Density)
3D model ATF1504SE-100T1 (100-Pin Thin Quad Flat Pack 0.5 mm Pitch)
pins: 1 NC, 2 NC, 3 VCCIO (power), 4 I/O/TDI (io), 5 NC, 6 I/O (io), 7 NC, 8 I/O (io), 9 I/O (io), 10 I/O (io), 11 GNDIO (power), 12 I/O/PD1 (io), 13 I/O (io), 14 I/O (io), 15 I/O/TMS (io), 16 I/O (io), 17 I/O (io), 18 VCCIO (power), 19 I/O (io), 20 I/O (io), 21 I/O (io), 22 NC, 23 I/O (io), 24 NC, 25 I/O (io), 26 GNDIO (power), 27 NC, 28 NC, 29 I/O (io), 30 I/O (io), 31 I/O (io), 32 I/O (io), 33 I/O (io), 34 VCCIO (power), 35 I/O (io), 36 I/O (io), 37 I/O (io), 38 GNDINT (power), 39 VCCINT (power), 40 I/O (io), 41 I/O (io), 42 I/O/PD2 (io), 43 GNDIO (power), 44 I/O (io), 45 I/O (io), 46 I/O (io), 47 I/O (io), 48 I/O (io), 49 NC, 50 NC, 51 VCCIO (power), 52 I/O (io), 53 NC, 54 I/O (io), 55 NC, 56 I/O (io), 57 I/O (io), 58 I/O (io), 59 GNDIO (power), 60 I/O (io), 61 I/O (io), 62 I/O/TCK (io), 63 I/O (io), 64 I/O (io), 65 I/O (io), 66 VCCIO (power), 67 I/O (io), 68 I/O (io), 69 I/O (io), 70 NC, 71 I/O (io), 72 NC, 73 I/O/TDO (io), 74 GNDIO (power), 75 I/O (io), 76 I/O (io), 77 NC, 78 NC, 79 I/O (io), 80 I/O (io), 81 I/O (io), 82 VCCIO (power), 83 I/O (io), 84 I/O (io), 85 I/O/GCLK3 (io), 86 GNDINT (power), 87 INPUT/GCLK1 (in), 88 INPUT/OE1 (in), 89 INPUT/GCLR (in), 90 INPUT/OE2/GCLK2 (in), 91 VCCINT (power), 92 I/O (io), 93 I/O (io), 94 I/O (io), 95 GNDIO (power), 96 I/O (io), 97 I/O (io), 98 I/O (io), 99 I/O (io), 100 I/O (io)

## ATF1504SE-10JC44
designator U?
ATF1504SE 5.0V CPLD, 64 Macrocells, 44-lead PLCC, Speed Grade 10, Commercial Grade; Published: 19-Mar-2004; LatestRevisionDate: 13-Apr-2006; LatestRevisionNote: IPC-7351 Footprint Added.; DatasheetVersion: Rev. 2401D-PLD-09/02; PackageVersion: rev.B, Oct-2001; PackageReference: 44J; Publisher: Altium Limited; PackageDescription: 44-Pin Leaded Chip Carrier 1.27 mm Pitch; Code_JEDEC: MS-018-AC; Code_IPC: PLCC-44; ComponentLink1Description: Manufacturer Link; ComponentLink1URL: http://www.atmel.com/products/pld/default.asp
footprint 44J_N (Leaded Chip Carrier, 44-Leads, Body 16.6x16.6mm, Pitch 1.27mm, IPC Medium Density)
footprint 44J_L (Leaded Chip Carrier, 44-Leads, Body 16.6x16.6mm, Pitch 1.27mm, IPC High Density)
footprint 44J_M (Leaded Chip Carrier, 44-Leads, Body 16.6x16.6mm, Pitch 1.27mm, IPC Low Density)
3D model ATF1504SE-44J (44-Pin Leaded Chip Carrier 1.27 mm Pitch)
pins: 1 INPUT/GCLR (in), 2 INPUT/OE2/GCLK2 (in), 3 VCCINT (power), 4 I/O (io), 5 I/O (io), 6 I/O (io), 7 I/O/TDI (io), 8 I/O (io), 9 I/O (io), 10 GNDIO (power), 11 PD1/I/O (io), 12 I/O (io), 13 I/O/TMS (io), 14 I/O (io), 15 VCCIO (power), 16 I/O (io), 17 I/O (io), 18 I/O (io), 19 I/O (io), 20 I/O (io), 21 I/O (io), 22 GNDINT (power), 23 VCCINT (power), 24 I/O (io), 25 PD2/I/O (io), 26 I/O (io), 27 I/O (io), 28 I/O (io), 29 I/O (io), 30 GNDIO (power), 31 I/O (io), 32 I/O/TCK (io), 33 I/O (io), 34 I/O (io), 35 VCCIO (power), 36 I/O (io), 37 I/O (io), 38 I/O/TDO (io), 39 I/O (io), 40 I/O (io), 41 GCLK3/I/O (io), 42 GNDINT (power), 43 INPUT/GCLK1 (in), 44 INPUT/OE1 (in)

## ATF1504SE-10JI44
designator U?
ATF1504SE 5.0V CPLD, 64 Macrocells, 44-lead PLCC, Speed Grade 10, Industrial Grade; Published: 19-Mar-2004; LatestRevisionDate: 13-Apr-2006; LatestRevisionNote: IPC-7351 Footprint Added.; DatasheetVersion: Rev. 2401D-PLD-09/02; PackageVersion: rev.B, Oct-2001; PackageReference: 44J; Publisher: Altium Limited; PackageDescription: 44-Pin Leaded Chip Carrier 1.27 mm Pitch; Code_JEDEC: MS-018-AC; Code_IPC: PLCC-44; ComponentLink1Description: Manufacturer Link; ComponentLink1URL: http://www.atmel.com/products/pld/default.asp
footprint 44J_N (Leaded Chip Carrier, 44-Leads, Body 16.6x16.6mm, Pitch 1.27mm, IPC Medium Density)
footprint 44J_L (Leaded Chip Carrier, 44-Leads, Body 16.6x16.6mm, Pitch 1.27mm, IPC High Density)
footprint 44J_M (Leaded Chip Carrier, 44-Leads, Body 16.6x16.6mm, Pitch 1.27mm, IPC Low Density)
3D model ATF1504SE-44J (44-Pin Leaded Chip Carrier 1.27 mm Pitch)
pins: 1 INPUT/GCLR (in), 2 INPUT/OE2/GCLK2 (in), 3 VCCINT (power), 4 I/O (io), 5 I/O (io), 6 I/O (io), 7 I/O/TDI (io), 8 I/O (io), 9 I/O (io), 10 GNDIO (power), 11 PD1/I/O (io), 12 I/O (io), 13 I/O/TMS (io), 14 I/O (io), 15 VCCIO (power), 16 I/O (io), 17 I/O (io), 18 I/O (io), 19 I/O (io), 20 I/O (io), 21 I/O (io), 22 GNDINT (power), 23 VCCINT (power), 24 I/O (io), 25 PD2/I/O (io), 26 I/O (io), 27 I/O (io), 28 I/O (io), 29 I/O (io), 30 GNDIO (power), 31 I/O (io), 32 I/O/TCK (io), 33 I/O (io), 34 I/O (io), 35 VCCIO (power), 36 I/O (io), 37 I/O (io), 38 I/O/TDO (io), 39 I/O (io), 40 I/O (io), 41 GCLK3/I/O (io), 42 GNDINT (power), 43 INPUT/GCLK1 (in), 44 INPUT/OE1 (in)

## ATF1504SEL-15AC44
designator U?
ATF1504SEL 5.0V CPLD, 64 Macrocells, 44-lead TQFP, Speed Grade 15, Commercial Grade; Published: 19-Mar-2004; LatestRevisionDate: 13-Apr-2006; LatestRevisionNote: IPC-7351 Footprint Added.; DatasheetVersion: Rev. 2401D-PLD-09/02; PackageVersion: rev.B, Oct-2001; PackageReference: 44A; Publisher: Altium Limited; PackageDescription: 44-Pin Thin Quad Flat Pack 0.8 mm Pitch; ComponentLink1Description: Manufacturer Link; ComponentLink1URL: http://www.atmel.com/products/pld/default.asp
footprint 44A_N (Thin QFP, 44-Leads, Body 10x10mm, Pitch 0.8mm, IPC Medium Density)
footprint 44A_L (Thin QFP, 44-Leads, Body 10x10mm, Pitch 0.8mm, IPC High Density)
footprint 44A_M (Thin QFP, 44-Leads, Body 10x10mm, Pitch 0.8mm, IPC Low Density)
3D model ATF1504SEL-44A (44-Pin Thin Quad Flat Pack 0.8 mm Pitch)
pins: 1 I/O/TDI (io), 2 I/O (io), 3 I/O (io), 4 GNDIO (power), 5 PD1/I/O (io), 6 I/O (io), 7 I/O/TMS (io), 8 I/O (io), 9 VCCIO (power), 10 I/O (io), 11 I/O (io), 12 I/O (io), 13 I/O (io), 14 I/O (io), 15 I/O (io), 16 GNDINT (power), 17 VCCINT (power), 18 I/O (io), 19 PD2/I/O (io), 20 I/O (io), 21 I/O (io), 22 I/O (io), 23 I/O (io), 24 GNDIO (power), 25 I/O (io), 26 I/O/TCK (io), 27 I/O (io), 28 I/O (io), 29 VCCIO (power), 30 I/O (io), 31 I/O (io), 32 I/O/TDO (io), 33 I/O (io), 34 I/O (io), 35 GCLK3/I/O (io), 36 GNDINT (power), 37 INPUT/GCLK1 (in), 38 INPUT/OE1 (in), 39 INPUT/GCLR (in), 40 INPUT/OE2/GCLK2 (in), 41 VCCINT (power), 42 I/O (io), 43 I/O (io), 44 I/O (io)

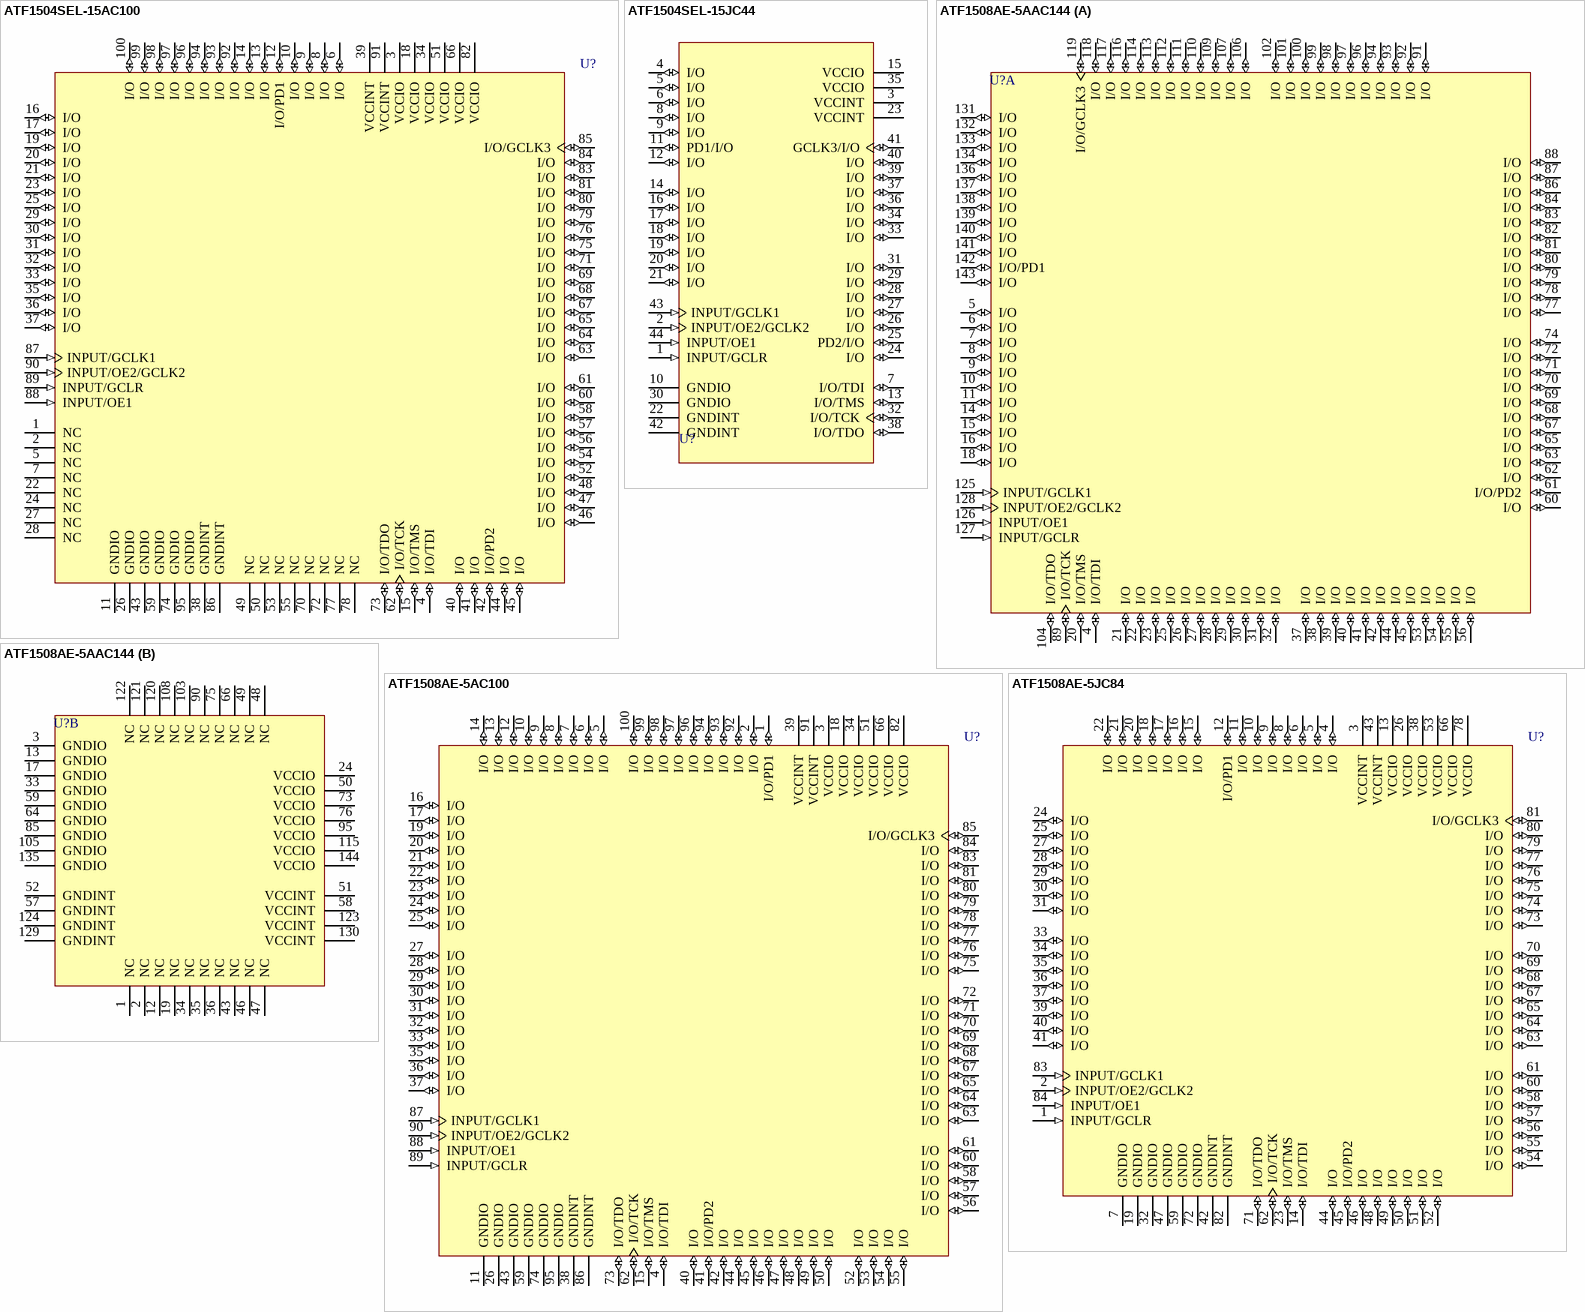
[diagram p21: symbols ATF1504SEL-15AC100 to ATF1508AE-5JC84]

## ATF1504SEL-15AC100
designator U?
ATF1504SEL 5.0V CPLD, 64 Macrocells, 100-lead TQFP, Speed Grade 15, Commercial Grade; Published: 19-Mar-2004; LatestRevisionDate: 13-Apr-2006; LatestRevisionNote: IPC-7351 Footprint Added.; DatasheetVersion: Rev. 2401D-PLD-09/02; PackageVersion: rev.A, Nov-2001; PackageReference: 100T1; Publisher: Altium Limited; PackageDescription: 100-Pin Thin Quad Flat Pack 0.5 mm Pitch; Code_JEDEC: MS-026-AED; ComponentLink1Description: Manufacturer Link; ComponentLink1URL: http://www.atmel.com/products/pld/default.asp
footprint 100T1_N (Thin QFP, 100-Leads, Body 14x14mm, Pitch 0.5mm, IPC Medium Density)
footprint 100T1_L (Thin QFP, 100-Leads, Body 14x14mm, Pitch 0.5mm, IPC High Density)
footprint 100T1_M (Thin QFP, 100-Leads, Body 14x14mm, Pitch 0.5mm, IPC Low Density)
3D model ATF1504SEL-100T1 (100-Pin Thin Quad Flat Pack 0.5 mm Pitch)
pins: 1 NC, 2 NC, 3 VCCIO (power), 4 I/O/TDI (io), 5 NC, 6 I/O (io), 7 NC, 8 I/O (io), 9 I/O (io), 10 I/O (io), 11 GNDIO (power), 12 I/O/PD1 (io), 13 I/O (io), 14 I/O (io), 15 I/O/TMS (io), 16 I/O (io), 17 I/O (io), 18 VCCIO (power), 19 I/O (io), 20 I/O (io), 21 I/O (io), 22 NC, 23 I/O (io), 24 NC, 25 I/O (io), 26 GNDIO (power), 27 NC, 28 NC, 29 I/O (io), 30 I/O (io), 31 I/O (io), 32 I/O (io), 33 I/O (io), 34 VCCIO (power), 35 I/O (io), 36 I/O (io), 37 I/O (io), 38 GNDINT (power), 39 VCCINT (power), 40 I/O (io), 41 I/O (io), 42 I/O/PD2 (io), 43 GNDIO (power), 44 I/O (io), 45 I/O (io), 46 I/O (io), 47 I/O (io), 48 I/O (io), 49 NC, 50 NC, 51 VCCIO (power), 52 I/O (io), 53 NC, 54 I/O (io), 55 NC, 56 I/O (io), 57 I/O (io), 58 I/O (io), 59 GNDIO (power), 60 I/O (io), 61 I/O (io), 62 I/O/TCK (io), 63 I/O (io), 64 I/O (io), 65 I/O (io), 66 VCCIO (power), 67 I/O (io), 68 I/O (io), 69 I/O (io), 70 NC, 71 I/O (io), 72 NC, 73 I/O/TDO (io), 74 GNDIO (power), 75 I/O (io), 76 I/O (io), 77 NC, 78 NC, 79 I/O (io), 80 I/O (io), 81 I/O (io), 82 VCCIO (power), 83 I/O (io), 84 I/O (io), 85 I/O/GCLK3 (io), 86 GNDINT (power), 87 INPUT/GCLK1 (in), 88 INPUT/OE1 (in), 89 INPUT/GCLR (in), 90 INPUT/OE2/GCLK2 (in), 91 VCCINT (power), 92 I/O (io), 93 I/O (io), 94 I/O (io), 95 GNDIO (power), 96 I/O (io), 97 I/O (io), 98 I/O (io), 99 I/O (io), 100 I/O (io)

## ATF1504SEL-15JC44
designator U?
ATF1504SEL 5.0V CPLD, 64 Macrocells, 44-lead PLCC, Speed Grade 15, Commercial Grade; Published: 19-Mar-2004; LatestRevisionDate: 13-Apr-2006; LatestRevisionNote: IPC-7351 Footprint Added.; DatasheetVersion: Rev. 2401D-PLD-09/02; PackageVersion: rev.B, Oct-2001; PackageReference: 44J; Publisher: Altium Limited; PackageDescription: 44-Pin Leaded Chip Carrier 1.27 mm Pitch; Code_JEDEC: MS-018-AC; Code_IPC: PLCC-44; ComponentLink1Description: Manufacturer Link; ComponentLink1URL: http://www.atmel.com/products/pld/default.asp
footprint 44J_N (Leaded Chip Carrier, 44-Leads, Body 16.6x16.6mm, Pitch 1.27mm, IPC Medium Density)
footprint 44J_L (Leaded Chip Carrier, 44-Leads, Body 16.6x16.6mm, Pitch 1.27mm, IPC High Density)
footprint 44J_M (Leaded Chip Carrier, 44-Leads, Body 16.6x16.6mm, Pitch 1.27mm, IPC Low Density)
3D model ATF1504SEL-44J (44-Pin Leaded Chip Carrier 1.27 mm Pitch)
pins: 1 INPUT/GCLR (in), 2 INPUT/OE2/GCLK2 (in), 3 VCCINT (power), 4 I/O (io), 5 I/O (io), 6 I/O (io), 7 I/O/TDI (io), 8 I/O (io), 9 I/O (io), 10 GNDIO (power), 11 PD1/I/O (io), 12 I/O (io), 13 I/O/TMS (io), 14 I/O (io), 15 VCCIO (power), 16 I/O (io), 17 I/O (io), 18 I/O (io), 19 I/O (io), 20 I/O (io), 21 I/O (io), 22 GNDINT (power), 23 VCCINT (power), 24 I/O (io), 25 PD2/I/O (io), 26 I/O (io), 27 I/O (io), 28 I/O (io), 29 I/O (io), 30 GNDIO (power), 31 I/O (io), 32 I/O/TCK (io), 33 I/O (io), 34 I/O (io), 35 VCCIO (power), 36 I/O (io), 37 I/O (io), 38 I/O/TDO (io), 39 I/O (io), 40 I/O (io), 41 GCLK3/I/O (io), 42 GNDINT (power), 43 INPUT/GCLK1 (in), 44 INPUT/OE1 (in)

## ATF1508AE-5AAC144
designator U?
ATF1508AE 5.0V CPLD, 128 Macrocells, 144-lead LQFP, Speed Grade 5.0, Commercial Grade; Published: 19-Mar-2004; LatestRevisionDate: 13-Apr-2006; LatestRevisionNote: IPC-7351 Footprint Added.; DatasheetVersion: Rev. 2398H-PLD-8/03; PackageVersion: rev.C, Oct-2001; PackageReference: 144AA; Publisher: Altium Limited; PackageDescription: 144-Pin Thin Quad Flat Pack 0.5 mm Pitch; Code_JEDEC: MS-026-BFB; ComponentLink1Description: Manufacturer Link; ComponentLink1URL: http://www.atmel.com/products/pld/default.asp
footprint 144AA_N (Thin QFP, 144-Leads, Body 20x20mm, Pitch 0.5mm, IPC Medium Density)
footprint 144AA_L (Thin QFP, 144-Leads, Body 20x20mm, Pitch 0.5mm, IPC High Density)
footprint 144AA_M (Thin QFP, 144-Leads, Body 20x20mm, Pitch 0.5mm, IPC Low Density)
3D model ATF1508AE-144AA (144-Pin Thin Quad Flat Pack 0.5 mm Pitch)
part A pins: 4 I/O/TDI (io), 5 I/O (io), 6 I/O (io), 7 I/O (io), 8 I/O (io), 9 I/O (io), 10 I/O (io), 11 I/O (io), 14 I/O (io), 15 I/O (io), 16 I/O (io), 18 I/O (io), 20 I/O/TMS (io), 21 I/O (io), 22 I/O (io), 23 I/O (io), 25 I/O (io), 26 I/O (io), 27 I/O (io), 28 I/O (io), 29 I/O (io), 30 I/O (io), 31 I/O (io), 32 I/O (io), 37 I/O (io), 38 I/O (io), 39 I/O (io), 40 I/O (io), 41 I/O (io), 42 I/O (io), 44 I/O (io), 45 I/O (io), 53 I/O (io), 54 I/O (io), 55 I/O (io), 56 I/O (io), 60 I/O (io), 61 I/O/PD2 (io), 62 I/O (io), 63 I/O (io), 65 I/O (io), 67 I/O (io), 68 I/O (io), 69 I/O (io), 70 I/O (io), 71 I/O (io), 72 I/O (io), 74 I/O (io), 77 I/O (io), 78 I/O (io), 79 I/O (io), 80 I/O (io), 81 I/O (io), 82 I/O (io), 83 I/O (io), 84 I/O (io), 86 I/O (io), 87 I/O (io), 88 I/O (io), 89 I/O/TCK (io), 91 I/O (io), 92 I/O (io), 93 I/O (io), 94 I/O (io), 96 I/O (io), 97 I/O (io), 98 I/O (io), 99 I/O (io), 100 I/O (io), 101 I/O (io), 102 I/O (io), 104 I/O/TDO (io), 106 I/O (io), 107 I/O (io), 109 I/O (io), 110 I/O (io), 111 I/O (io), 112 I/O (io), 113 I/O (io), 114 I/O (io), 116 I/O (io), 117 I/O (io), 118 I/O (io), 119 I/O/GCLK3 (io), 125 INPUT/GCLK1 (in), 126 INPUT/OE1 (in), 127 INPUT/GCLR (in), 128 INPUT/OE2/GCLK2 (in), 131 I/O (io), 132 I/O (io), 133 I/O (io), 134 I/O (io), 136 I/O (io), 137 I/O (io), 138 I/O (io), 139 I/O (io), 140 I/O (io), 141 I/O (io), 142 I/O/PD1 (io), 143 I/O (io)
part B pins: 1 NC, 2 NC, 3 GNDIO (power), 12 NC, 13 GNDIO (power), 17 GNDIO (power), 19 NC, 24 VCCIO (power), 33 GNDIO (power), 34 NC, 35 NC, 36 NC, 43 NC, 46 NC, 47 NC, 48 NC, 49 NC, 50 VCCIO (power), 51 VCCINT (power), 52 GNDINT (power), 57 GNDINT (power), 58 VCCINT (power), 59 GNDIO (power), 64 GNDIO (power), 66 NC, 73 VCCIO (power), 75 NC, 76 VCCIO (power), 85 GNDIO (power), 90 NC, 95 VCCIO (power), 103 NC, 105 GNDIO (power), 108 NC, 115 VCCIO (power), 120 NC, 121 NC, 122 NC, 123 VCCINT (power), 124 GNDINT (power), 129 GNDINT (power), 130 VCCINT (power), 135 GNDIO (power), 144 VCCIO (power)

## ATF1508AE-5AC100
designator U?
ATF1508AE 5.0V CPLD, 128 Macrocells, 100-lead TQFP, Speed Grade 5.0, Commercial Grade; Published: 19-Mar-2004; LatestRevisionDate: 13-Apr-2006; LatestRevisionNote: IPC-7351 Footprint Added.; DatasheetVersion: Rev. 2398H-PLD-8/03; PackageVersion: rev.A, Nov-2001; PackageReference: 100T1; Publisher: Altium Limited; PackageDescription: 100-Pin Thin Quad Flat Pack 0.5 mm Pitch; Code_JEDEC: MS-026-AED; ComponentLink1Description: Manufacturer Link; ComponentLink1URL: http://www.atmel.com/products/pld/default.asp
footprint 100T1_N (Thin QFP, 100-Leads, Body 14x14mm, Pitch 0.5mm, IPC Medium Density)
footprint 100T1_L (Thin QFP, 100-Leads, Body 14x14mm, Pitch 0.5mm, IPC High Density)
footprint 100T1_M (Thin QFP, 100-Leads, Body 14x14mm, Pitch 0.5mm, IPC Low Density)
3D model ATF1508AE-100T1 (100-Pin Thin Quad Flat Pack 0.5 mm Pitch)
pins: 1 I/O/PD1 (io), 2 I/O (io), 3 VCCIO (power), 4 I/O/TDI (io), 5 I/O (io), 6 I/O (io), 7 I/O (io), 8 I/O (io), 9 I/O (io), 10 I/O (io), 11 GNDIO (power), 12 I/O (io), 13 I/O (io), 14 I/O (io), 15 I/O/TMS (io), 16 I/O (io), 17 I/O (io), 18 VCCIO (power), 19 I/O (io), 20 I/O (io), 21 I/O (io), 22 I/O (io), 23 I/O (io), 24 I/O (io), 25 I/O (io), 26 GNDIO (power), 27 I/O (io), 28 I/O (io), 29 I/O (io), 30 I/O (io), 31 I/O (io), 32 I/O (io), 33 I/O (io), 34 VCCIO (power), 35 I/O (io), 36 I/O (io), 37 I/O (io), 38 GNDINT (power), 39 VCCINT (power), 40 I/O (io), 41 I/O/PD2 (io), 42 I/O (io), 43 GNDIO (power), 44 I/O (io), 45 I/O (io), 46 I/O (io), 47 I/O (io), 48 I/O (io), 49 I/O (io), 50 I/O (io), 51 VCCIO (power), 52 I/O (io), 53 I/O (io), 54 I/O (io), 55 I/O (io), 56 I/O (io), 57 I/O (io), 58 I/O (io), 59 GNDIO (power), 60 I/O (io), 61 I/O (io), 62 I/O/TCK (io), 63 I/O (io), 64 I/O (io), 65 I/O (io), 66 VCCIO (power), 67 I/O (io), 68 I/O (io), 69 I/O (io), 70 I/O (io), 71 I/O (io), 72 I/O (io), 73 I/O/TDO (io), 74 GNDIO (power), 75 I/O (io), 76 I/O (io), 77 I/O (io), 78 I/O (io), 79 I/O (io), 80 I/O (io), 81 I/O (io), 82 VCCIO (power), 83 I/O (io), 84 I/O (io), 85 I/O/GCLK3 (io), 86 GNDINT (power), 87 INPUT/GCLK1 (in), 88 INPUT/OE1 (in), 89 INPUT/GCLR (in), 90 INPUT/OE2/GCLK2 (in), 91 VCCINT (power), 92 I/O (io), 93 I/O (io), 94 I/O (io), 95 GNDIO (power), 96 I/O (io), 97 I/O (io), 98 I/O (io), 99 I/O (io), 100 I/O (io)

## ATF1508AE-5JC84
designator U?
ATF1508AE 5.0V CPLD, 128 Macrocells, 84-lead PLCC, Speed Grade 5.0, Commercial Grade; Published: 19-Mar-2004; LatestRevisionDate: 13-Apr-2006; LatestRevisionNote: IPC-7351 Footprint Added.; DatasheetVersion: Rev. 2398H-PLD-8/03; PackageVersion: rev.B, Oct-2001; PackageReference: 84J; Publisher: Altium Limited; PackageDescription: 84J, 84-lead, Plastic J-leaded Chip Carrier (PLCC); Code_JEDEC: MS-018-AF; Code_IPC: PLCC-84; ComponentLink1Description: Manufacturer Link; ComponentLink1URL: http://www.atmel.com/products/pld/default.asp
footprint 84J_N (Leaded Chip Carrier, 84-Leads, Body 29.3x29.3mm, Pitch 1.27mm, IPC Medium Density)
footprint 84J_L (Leaded Chip Carrier, 84-Leads, Body 29.3x29.3mm, Pitch 1.27mm, IPC High Density)
footprint 84J_M (Leaded Chip Carrier, 84-Leads, Body 29.3x29.3mm, Pitch 1.27mm, IPC Low Density)
3D model ATF1508AE-84J (84J, 84-lead, Plastic J-leaded Chip Carrier (PLCC))
pins: 1 INPUT/GCLR (in), 2 INPUT/OE2/GCLK2 (in), 3 VCCINT (power), 4 I/O (io), 5 I/O (io), 6 I/O (io), 7 GNDIO (power), 8 I/O (io), 9 I/O (io), 10 I/O (io), 11 I/O (io), 12 I/O/PD1 (io), 13 VCCIO (power), 14 I/O/TDI (io), 15 I/O (io), 16 I/O (io), 17 I/O (io), 18 I/O (io), 19 GNDIO (power), 20 I/O (io), 21 I/O (io), 22 I/O (io), 23 I/O/TMS (io), 24 I/O (io), 25 I/O (io), 26 VCCIO (power), 27 I/O (io), 28 I/O (io), 29 I/O (io), 30 I/O (io), 31 I/O (io), 32 GNDIO (power), 33 I/O (io), 34 I/O (io), 35 I/O (io), 36 I/O (io), 37 I/O (io), 38 VCCIO (power), 39 I/O (io), 40 I/O (io), 41 I/O (io), 42 GNDINT (power), 43 VCCINT (power), 44 I/O (io), 45 I/O/PD2 (io), 46 I/O (io), 47 GNDIO (power), 48 I/O (io), 49 I/O (io), 50 I/O (io), 51 I/O (io), 52 I/O (io), 53 VCCIO (power), 54 I/O (io), 55 I/O (io), 56 I/O (io), 57 I/O (io), 58 I/O (io), 59 GNDIO (power), 60 I/O (io), 61 I/O (io), 62 I/O/TCK (io), 63 I/O (io), 64 I/O (io), 65 I/O (io), 66 VCCIO (power), 67 I/O (io), 68 I/O (io), 69 I/O (io), 70 I/O (io), 71 I/O/TDO (io), 72 GNDIO (power), 73 I/O (io), 74 I/O (io), 75 I/O (io), 76 I/O (io), 77 I/O (io), 78 VCCIO (power), 79 I/O (io), 80 I/O (io), 81 I/O/GCLK3 (io), 82 GNDINT (power), 83 INPUT/GCLK1 (in), 84 INPUT/OE1 (in)

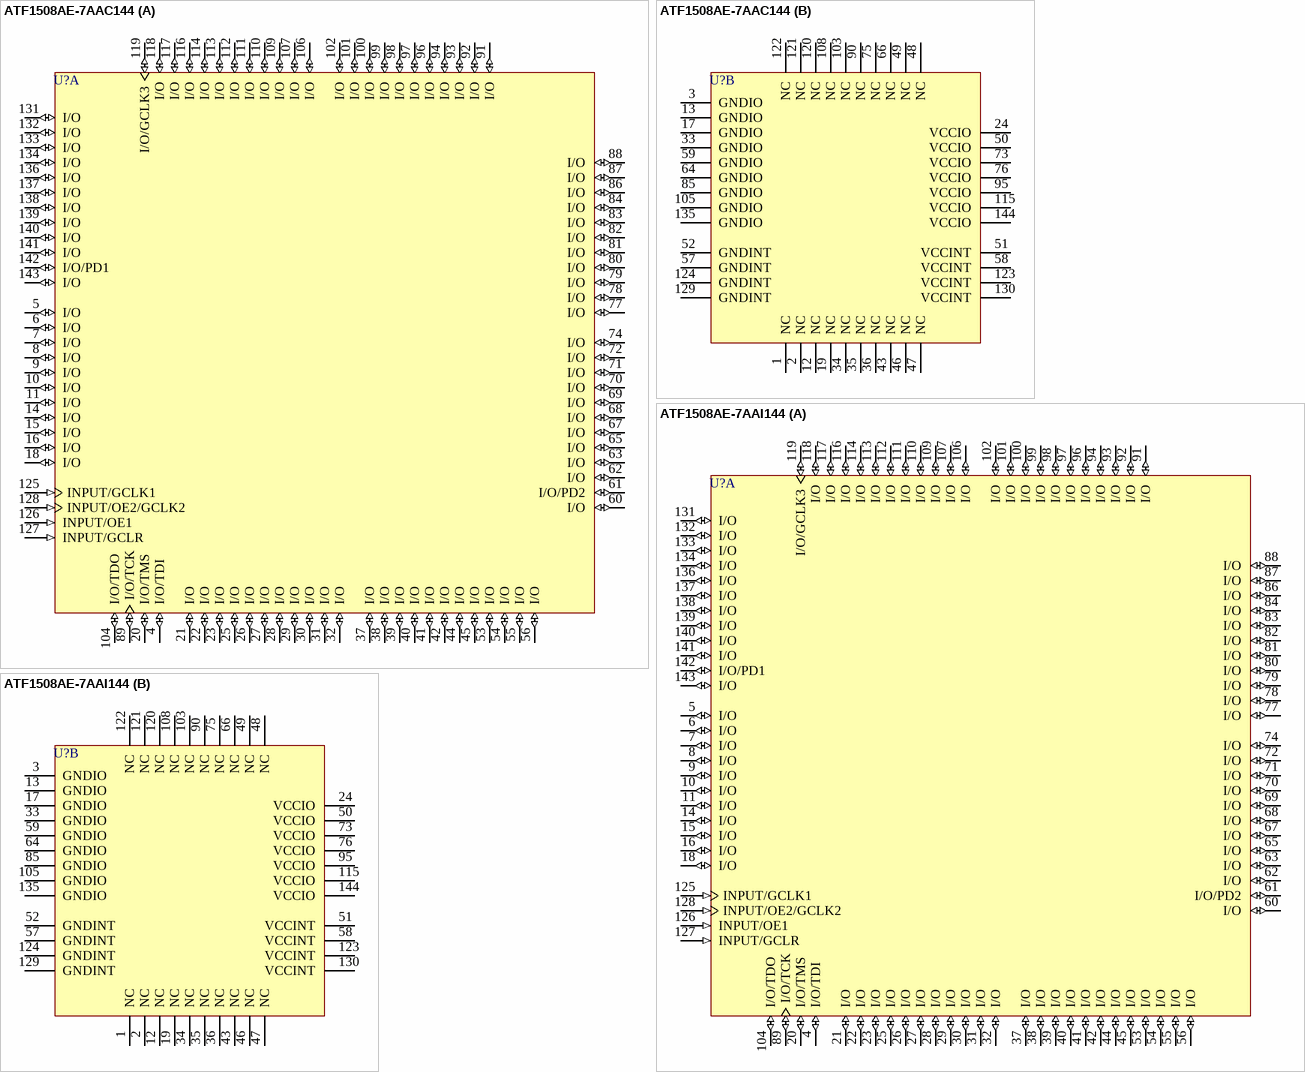
[diagram p22: symbols ATF1508AE-7AAC144 to ATF1508AE-7AAI144]

## ATF1508AE-7AAC144
designator U?
ATF1508AE 5.0V CPLD, 128 Macrocells, 144-lead LQFP, Speed Grade 7.5, Commercial Grade; Published: 19-Mar-2004; LatestRevisionDate: 13-Apr-2006; LatestRevisionNote: IPC-7351 Footprint Added.; DatasheetVersion: Rev. 2398H-PLD-8/03; PackageVersion: rev.C, Oct-2001; PackageReference: 144AA; Publisher: Altium Limited; PackageDescription: 144-Pin Thin Quad Flat Pack 0.5 mm Pitch; Code_JEDEC: MS-026-BFB; ComponentLink1Description: Manufacturer Link; ComponentLink1URL: http://www.atmel.com/products/pld/default.asp
footprint 144AA_N (Thin QFP, 144-Leads, Body 20x20mm, Pitch 0.5mm, IPC Medium Density)
footprint 144AA_L (Thin QFP, 144-Leads, Body 20x20mm, Pitch 0.5mm, IPC High Density)
footprint 144AA_M (Thin QFP, 144-Leads, Body 20x20mm, Pitch 0.5mm, IPC Low Density)
3D model ATF1508AE-144AA (144-Pin Thin Quad Flat Pack 0.5 mm Pitch)
part A pins: 4 I/O/TDI (io), 5 I/O (io), 6 I/O (io), 7 I/O (io), 8 I/O (io), 9 I/O (io), 10 I/O (io), 11 I/O (io), 14 I/O (io), 15 I/O (io), 16 I/O (io), 18 I/O (io), 20 I/O/TMS (io), 21 I/O (io), 22 I/O (io), 23 I/O (io), 25 I/O (io), 26 I/O (io), 27 I/O (io), 28 I/O (io), 29 I/O (io), 30 I/O (io), 31 I/O (io), 32 I/O (io), 37 I/O (io), 38 I/O (io), 39 I/O (io), 40 I/O (io), 41 I/O (io), 42 I/O (io), 44 I/O (io), 45 I/O (io), 53 I/O (io), 54 I/O (io), 55 I/O (io), 56 I/O (io), 60 I/O (io), 61 I/O/PD2 (io), 62 I/O (io), 63 I/O (io), 65 I/O (io), 67 I/O (io), 68 I/O (io), 69 I/O (io), 70 I/O (io), 71 I/O (io), 72 I/O (io), 74 I/O (io), 77 I/O (io), 78 I/O (io), 79 I/O (io), 80 I/O (io), 81 I/O (io), 82 I/O (io), 83 I/O (io), 84 I/O (io), 86 I/O (io), 87 I/O (io), 88 I/O (io), 89 I/O/TCK (io), 91 I/O (io), 92 I/O (io), 93 I/O (io), 94 I/O (io), 96 I/O (io), 97 I/O (io), 98 I/O (io), 99 I/O (io), 100 I/O (io), 101 I/O (io), 102 I/O (io), 104 I/O/TDO (io), 106 I/O (io), 107 I/O (io), 109 I/O (io), 110 I/O (io), 111 I/O (io), 112 I/O (io), 113 I/O (io), 114 I/O (io), 116 I/O (io), 117 I/O (io), 118 I/O (io), 119 I/O/GCLK3 (io), 125 INPUT/GCLK1 (in), 126 INPUT/OE1 (in), 127 INPUT/GCLR (in), 128 INPUT/OE2/GCLK2 (in), 131 I/O (io), 132 I/O (io), 133 I/O (io), 134 I/O (io), 136 I/O (io), 137 I/O (io), 138 I/O (io), 139 I/O (io), 140 I/O (io), 141 I/O (io), 142 I/O/PD1 (io), 143 I/O (io)
part B pins: 1 NC, 2 NC, 3 GNDIO (power), 12 NC, 13 GNDIO (power), 17 GNDIO (power), 19 NC, 24 VCCIO (power), 33 GNDIO (power), 34 NC, 35 NC, 36 NC, 43 NC, 46 NC, 47 NC, 48 NC, 49 NC, 50 VCCIO (power), 51 VCCINT (power), 52 GNDINT (power), 57 GNDINT (power), 58 VCCINT (power), 59 GNDIO (power), 64 GNDIO (power), 66 NC, 73 VCCIO (power), 75 NC, 76 VCCIO (power), 85 GNDIO (power), 90 NC, 95 VCCIO (power), 103 NC, 105 GNDIO (power), 108 NC, 115 VCCIO (power), 120 NC, 121 NC, 122 NC, 123 VCCINT (power), 124 GNDINT (power), 129 GNDINT (power), 130 VCCINT (power), 135 GNDIO (power), 144 VCCIO (power)

## ATF1508AE-7AAI144
designator U?
ATF1508AE 5.0V CPLD, 128 Macrocells, 144-lead LQFP, Speed Grade 7.5, Industrial Grade; Published: 19-Mar-2004; LatestRevisionDate: 13-Apr-2006; LatestRevisionNote: IPC-7351 Footprint Added.; DatasheetVersion: Rev. 2398H-PLD-8/03; PackageVersion: rev.C, Oct-2001; PackageReference: 144AA; Publisher: Altium Limited; PackageDescription: 144-Pin Thin Quad Flat Pack 0.5 mm Pitch; Code_JEDEC: MS-026-BFB; ComponentLink1Description: Manufacturer Link; ComponentLink1URL: http://www.atmel.com/products/pld/default.asp
footprint 144AA_N (Thin QFP, 144-Leads, Body 20x20mm, Pitch 0.5mm, IPC Medium Density)
footprint 144AA_L (Thin QFP, 144-Leads, Body 20x20mm, Pitch 0.5mm, IPC High Density)
footprint 144AA_M (Thin QFP, 144-Leads, Body 20x20mm, Pitch 0.5mm, IPC Low Density)
3D model ATF1508AE-144AA (144-Pin Thin Quad Flat Pack 0.5 mm Pitch)
part A pins: 4 I/O/TDI (io), 5 I/O (io), 6 I/O (io), 7 I/O (io), 8 I/O (io), 9 I/O (io), 10 I/O (io), 11 I/O (io), 14 I/O (io), 15 I/O (io), 16 I/O (io), 18 I/O (io), 20 I/O/TMS (io), 21 I/O (io), 22 I/O (io), 23 I/O (io), 25 I/O (io), 26 I/O (io), 27 I/O (io), 28 I/O (io), 29 I/O (io), 30 I/O (io), 31 I/O (io), 32 I/O (io), 37 I/O (io), 38 I/O (io), 39 I/O (io), 40 I/O (io), 41 I/O (io), 42 I/O (io), 44 I/O (io), 45 I/O (io), 53 I/O (io), 54 I/O (io), 55 I/O (io), 56 I/O (io), 60 I/O (io), 61 I/O/PD2 (io), 62 I/O (io), 63 I/O (io), 65 I/O (io), 67 I/O (io), 68 I/O (io), 69 I/O (io), 70 I/O (io), 71 I/O (io), 72 I/O (io), 74 I/O (io), 77 I/O (io), 78 I/O (io), 79 I/O (io), 80 I/O (io), 81 I/O (io), 82 I/O (io), 83 I/O (io), 84 I/O (io), 86 I/O (io), 87 I/O (io), 88 I/O (io), 89 I/O/TCK (io), 91 I/O (io), 92 I/O (io), 93 I/O (io), 94 I/O (io), 96 I/O (io), 97 I/O (io), 98 I/O (io), 99 I/O (io), 100 I/O (io), 101 I/O (io), 102 I/O (io), 104 I/O/TDO (io), 106 I/O (io), 107 I/O (io), 109 I/O (io), 110 I/O (io), 111 I/O (io), 112 I/O (io), 113 I/O (io), 114 I/O (io), 116 I/O (io), 117 I/O (io), 118 I/O (io), 119 I/O/GCLK3 (io), 125 INPUT/GCLK1 (in), 126 INPUT/OE1 (in), 127 INPUT/GCLR (in), 128 INPUT/OE2/GCLK2 (in), 131 I/O (io), 132 I/O (io), 133 I/O (io), 134 I/O (io), 136 I/O (io), 137 I/O (io), 138 I/O (io), 139 I/O (io), 140 I/O (io), 141 I/O (io), 142 I/O/PD1 (io), 143 I/O (io)
part B pins: 1 NC, 2 NC, 3 GNDIO (power), 12 NC, 13 GNDIO (power), 17 GNDIO (power), 19 NC, 24 VCCIO (power), 33 GNDIO (power), 34 NC, 35 NC, 36 NC, 43 NC, 46 NC, 47 NC, 48 NC, 49 NC, 50 VCCIO (power), 51 VCCINT (power), 52 GNDINT (power), 57 GNDINT (power), 58 VCCINT (power), 59 GNDIO (power), 64 GNDIO (power), 66 NC, 73 VCCIO (power), 75 NC, 76 VCCIO (power), 85 GNDIO (power), 90 NC, 95 VCCIO (power), 103 NC, 105 GNDIO (power), 108 NC, 115 VCCIO (power), 120 NC, 121 NC, 122 NC, 123 VCCINT (power), 124 GNDINT (power), 129 GNDINT (power), 130 VCCINT (power), 135 GNDIO (power), 144 VCCIO (power)

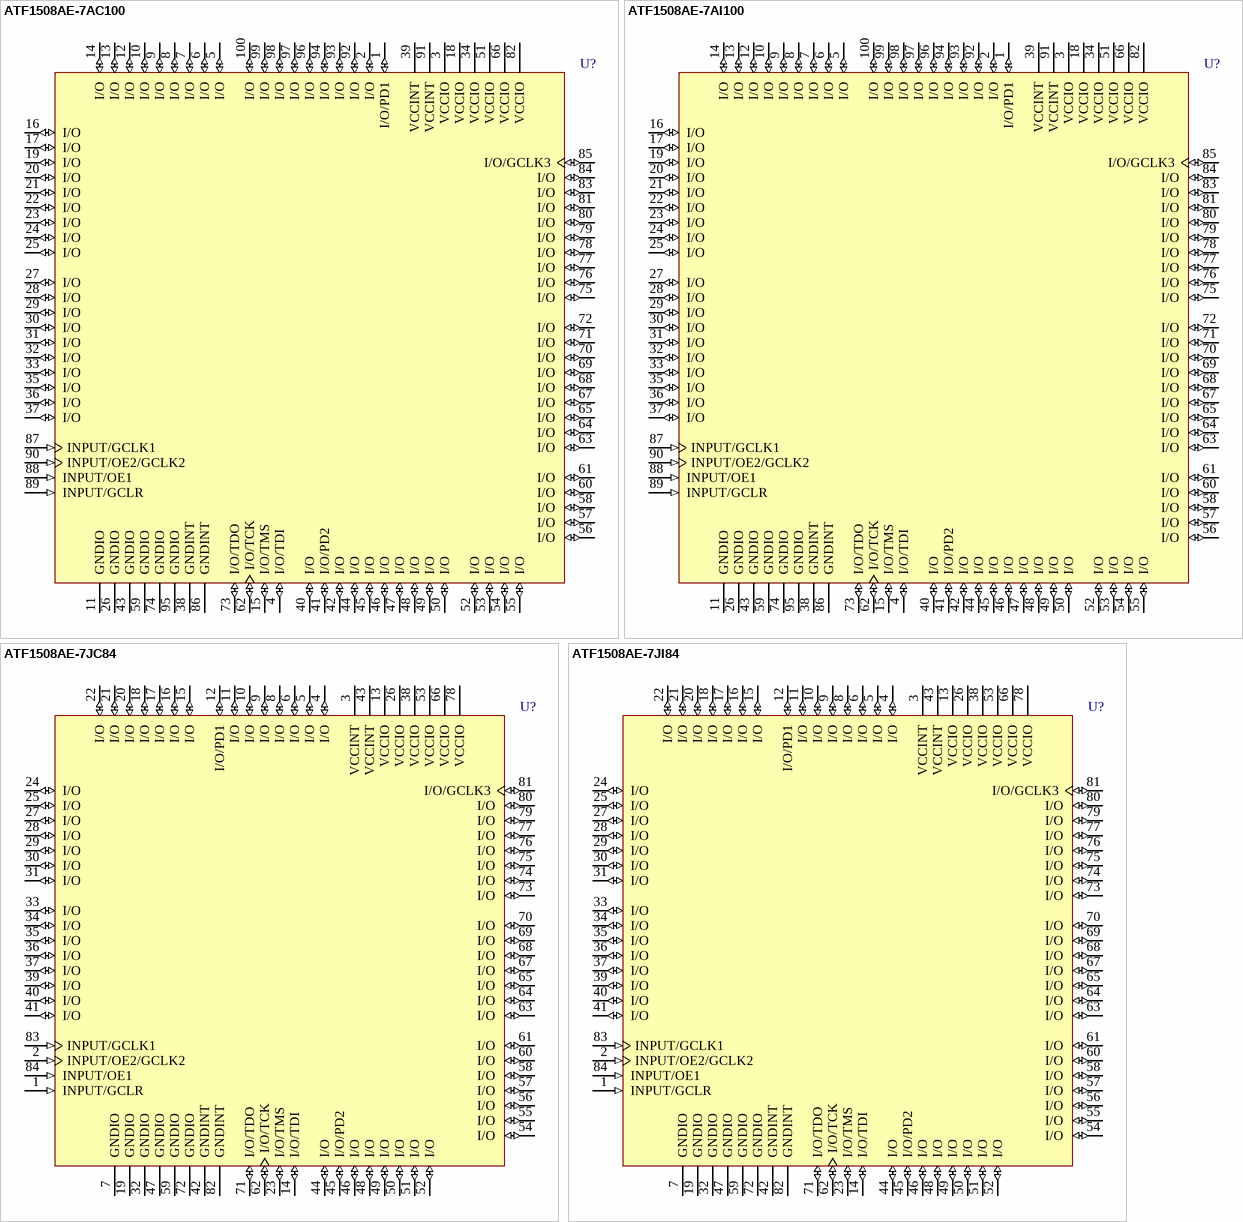
[diagram p23: symbols ATF1508AE-7AC100 to ATF1508AE-7JI84]

## ATF1508AE-7AC100
designator U?
ATF1508AE 5.0V CPLD, 128 Macrocells, 100-lead TQFP, Speed Grade 7.5, Commercial Grade; Published: 19-Mar-2004; LatestRevisionDate: 13-Apr-2006; LatestRevisionNote: IPC-7351 Footprint Added.; DatasheetVersion: Rev. 2398H-PLD-8/03; PackageVersion: rev.A, Nov-2001; PackageReference: 100T1; Publisher: Altium Limited; PackageDescription: 100-Pin Thin Quad Flat Pack 0.5 mm Pitch; Code_JEDEC: MS-026-AED; ComponentLink1Description: Manufacturer Link; ComponentLink1URL: http://www.atmel.com/products/pld/default.asp
footprint 100T1_N (Thin QFP, 100-Leads, Body 14x14mm, Pitch 0.5mm, IPC Medium Density)
footprint 100T1_L (Thin QFP, 100-Leads, Body 14x14mm, Pitch 0.5mm, IPC High Density)
footprint 100T1_M (Thin QFP, 100-Leads, Body 14x14mm, Pitch 0.5mm, IPC Low Density)
3D model ATF1508AE-100T1 (100-Pin Thin Quad Flat Pack 0.5 mm Pitch)
pins: 1 I/O/PD1 (io), 2 I/O (io), 3 VCCIO (power), 4 I/O/TDI (io), 5 I/O (io), 6 I/O (io), 7 I/O (io), 8 I/O (io), 9 I/O (io), 10 I/O (io), 11 GNDIO (power), 12 I/O (io), 13 I/O (io), 14 I/O (io), 15 I/O/TMS (io), 16 I/O (io), 17 I/O (io), 18 VCCIO (power), 19 I/O (io), 20 I/O (io), 21 I/O (io), 22 I/O (io), 23 I/O (io), 24 I/O (io), 25 I/O (io), 26 GNDIO (power), 27 I/O (io), 28 I/O (io), 29 I/O (io), 30 I/O (io), 31 I/O (io), 32 I/O (io), 33 I/O (io), 34 VCCIO (power), 35 I/O (io), 36 I/O (io), 37 I/O (io), 38 GNDINT (power), 39 VCCINT (power), 40 I/O (io), 41 I/O/PD2 (io), 42 I/O (io), 43 GNDIO (power), 44 I/O (io), 45 I/O (io), 46 I/O (io), 47 I/O (io), 48 I/O (io), 49 I/O (io), 50 I/O (io), 51 VCCIO (power), 52 I/O (io), 53 I/O (io), 54 I/O (io), 55 I/O (io), 56 I/O (io), 57 I/O (io), 58 I/O (io), 59 GNDIO (power), 60 I/O (io), 61 I/O (io), 62 I/O/TCK (io), 63 I/O (io), 64 I/O (io), 65 I/O (io), 66 VCCIO (power), 67 I/O (io), 68 I/O (io), 69 I/O (io), 70 I/O (io), 71 I/O (io), 72 I/O (io), 73 I/O/TDO (io), 74 GNDIO (power), 75 I/O (io), 76 I/O (io), 77 I/O (io), 78 I/O (io), 79 I/O (io), 80 I/O (io), 81 I/O (io), 82 VCCIO (power), 83 I/O (io), 84 I/O (io), 85 I/O/GCLK3 (io), 86 GNDINT (power), 87 INPUT/GCLK1 (in), 88 INPUT/OE1 (in), 89 INPUT/GCLR (in), 90 INPUT/OE2/GCLK2 (in), 91 VCCINT (power), 92 I/O (io), 93 I/O (io), 94 I/O (io), 95 GNDIO (power), 96 I/O (io), 97 I/O (io), 98 I/O (io), 99 I/O (io), 100 I/O (io)